# Altium schematic symbol library VC099_V13_20211125_Library.SchLib: 284 symbols (part 6 of 28)
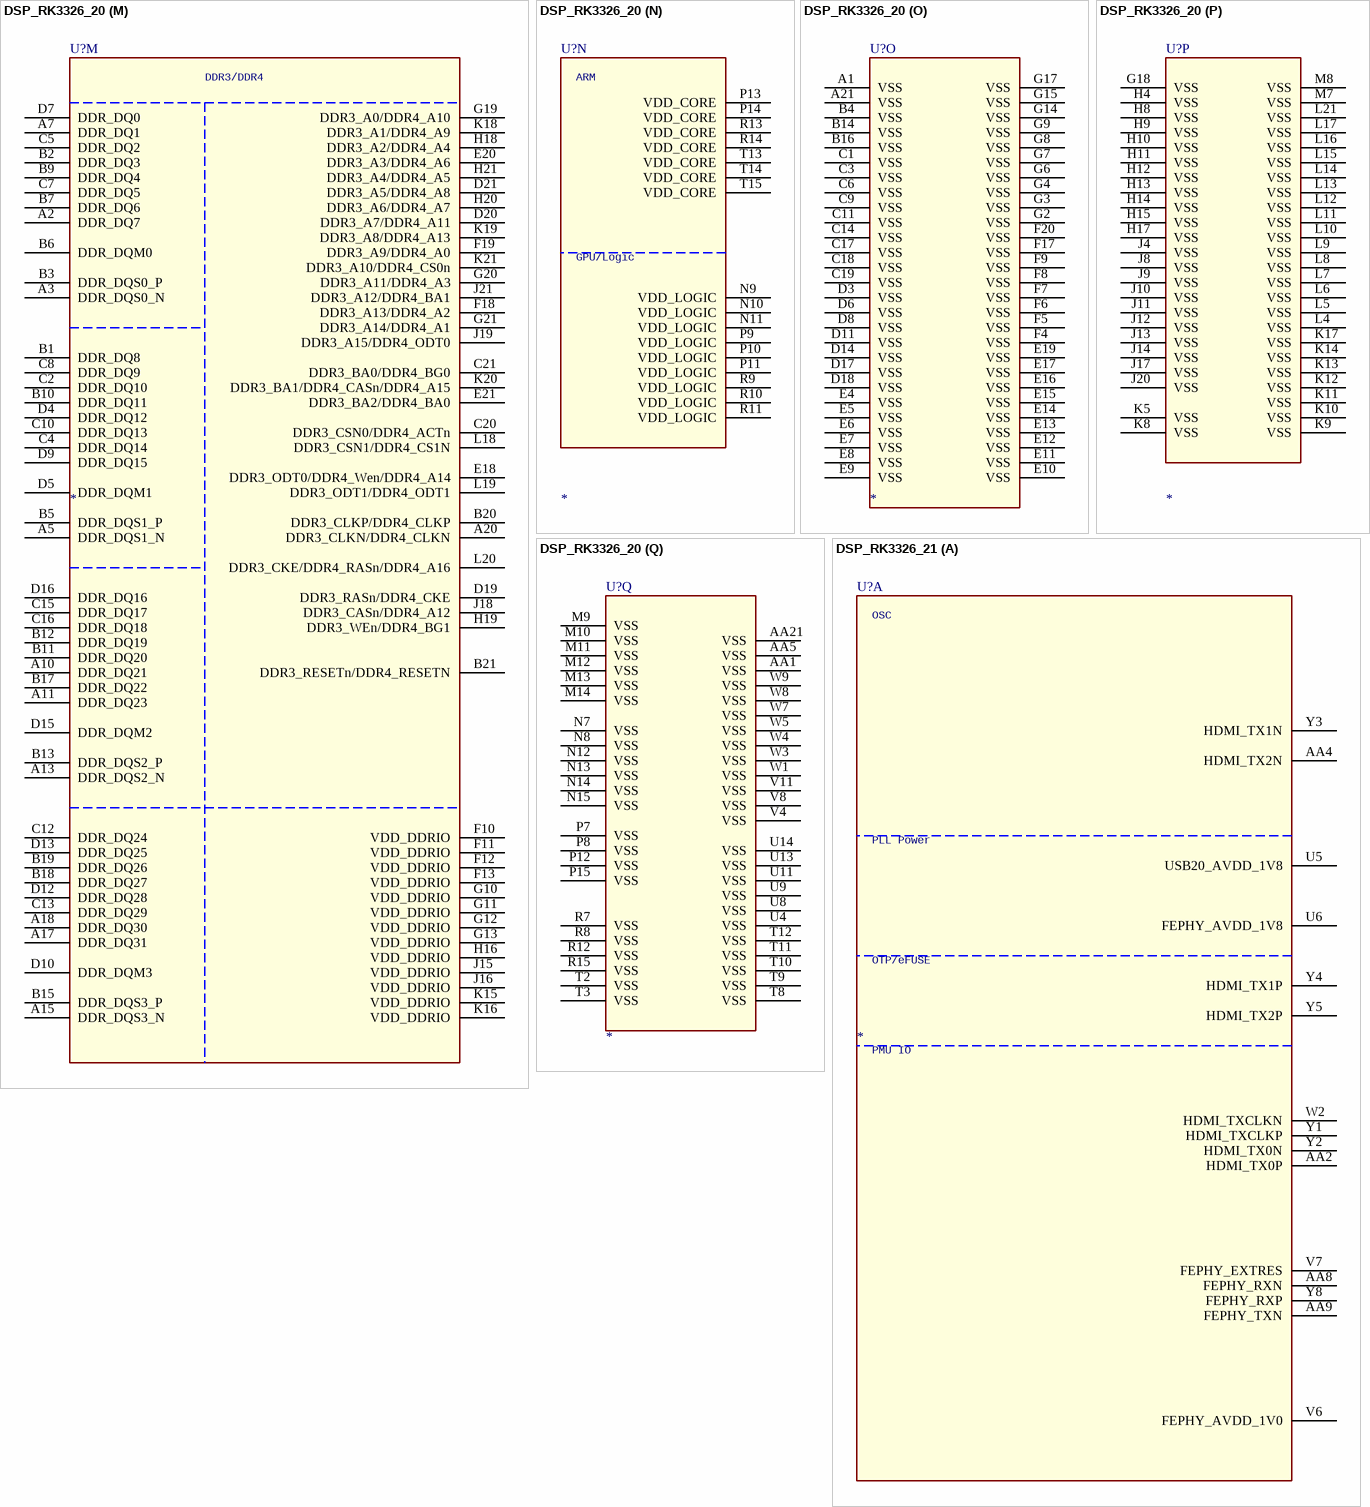
[diagram p368: symbols DSP_RK3326_20 to DSP_RK3326_21]

## DSP_RK3326_20
designator U?
footprint RK3228H_21X21
part A pins: AA2 HDMI_TX0P, AA4 HDMI_TX2N, AA8 FEPHY_RXN, AA9 FEPHY_TXN, U5 USB20_AVDD_1V8, U6 FEPHY_AVDD_1V8, V6 FEPHY_AVDD_1V0, V7 FEPHY_EXTRES, W2 HDMI_TXCLKN, Y1 HDMI_TXCLKP, Y2 HDMI_TX0N, Y3 HDMI_TX1N, Y4 HDMI_TX1P, Y5 HDMI_TX2P, Y8 FEPHY_RXP
part B pins: K6 VCCIO_PMU, R1 XIN24M, R3 GPIO0_A2/CLKOUT_GMAC_M0/SPDIF_TX_M2_d, T1 XOUT24M, U3 GPIO0_A4/HDMI_HPD_d, V1 I2C3_SCL/HDMI_SCL_od, V2 HDMI_CEC_od, V3 I2C3_SDA/HDMI_SDA_od
part C pins: M4 HDMI_EXTR, M5 VDD_PMU, M6 HDMI_AVDD_1V0, N5 CODEC_AVDD_1V8, N6 VDAC_AVDD_1V8, P6 HDMI_AVDD_1V8, R4 CODEC_AVSS, R5 VSS (power), T4 CODEC_VCM
part D pins: AA13 GPIO1_A3/SDMMC0_D3/JTAG_TMS_u, U7 VCCIO3, U10 GPIO1_A0/SDMMC0_D0/UART2_TX_M0_u, W11 GPIO1_A1/SDMMC0_D1/UART2_RX_M0_u, W12 GPIO1_A6/SDMMC0_CLK/TEST_CLK0_d, W13 GPIO1_A2/SDMMC0_D2/JTAG_TCK_u, Y13 GPIO1_A4/SDMMC0_CMD_u
part E pins: AA15 GPIO1_B1/UART0_TX/GMAC_TXD0_M1_u, AA17 GPIO1_D0/I2S2_SDI_M0/GMAC_RXER_M1/PDM_SDI1_M1_d, AA19 GPIO1_C0/SDMMC1_D2/GMAC_TXD3_M1_u, AA20 GPIO1_B4/SDMMC1_CLK/GMAC_TXCLK_M1_d, U12 VCCIO4, W15 GPIO1_C5/I2S2_MCLK/GMAC_CLK_M1_d, W16 GPIO1_C6/I2S2_SCLK_M0/GMAC_RXDV_M1/PDM_CLK_M1_u, W17 GPIO1_C7/I2S2_LRCK_TX_M0/GMAC_MDC_M1/PDM_SDI0_M1_d, W18 GPIO1_B7/SDMMC1_D1/GMAC_RXD2_M1_u, W19 GPIO1_B6/SDMMC1_D0/GMAC_RXD3_M1_u, W20 GPIO1_C2/SDMMC1_PWREN/GMAC_CRS_M1_d, W21 GPIO3_C0/EMMC_D5_u, Y15 GPIO1_B0/UART0_RX/GMAC_TXD1_M1_u, Y17 GPIO1_D1/I2S2_SDO_M0/GMAC_TXEN_M1/PDM_SDI2_M1_d, Y19 GPIO1_C1/SDMMC1_D3/GMAC_TXD2_M1_u, Y20 GPIO1_B5/SDMMC1_CMD/GMAC_RXCLK_M1_u, Y21 GPIO1_C3/SDMMC1_DET/GMAC_MDIO_M1/PDM_FSYNC_M1_u
part F pins: P16 EFUSE_VP, P17 GPIO2_D0/I2C0_SCL/FEPHY_LED_LINK_M1_u, P18 GPIO2_C1/I2S1_LRCK_TX/SPDIF_TX_M1/TSP_D6_M1/CIF_D6_M1_u, P19 GPIO2_A0/UART2_TX_M1/POWERSTATE0_d, P20 GPIO2_A1/UART2_RX_M1/POWERSTATE1_u, P21 NPOR_u, R16 VCCIO5, R17 GPIO2_D1/I2C0_SDA/FEPHY_LED_DATA_M1_u, R18 GPIO2_C2/I2S1_SCLK/PDM_CLK_M0/TSP_D7_M1/CIF_D7_M1_d, R19 GPIO3_C6/EMMC_PWREN_d, R20 GPIO3_C3/EMMC_CMD_u, R21 GPIO3_C5/EMMC_CLKOUT_u, T16 GPIO2_B4/SPI_CSN1_M0/FLASH_VOL_SEL_u, T17 VCCIO2, T18 GPIO3_C1/EMMC_D6_u, T19 GPIO3_C2/EMMC_D7_u, U15 VSS (power), U16 GPIO2_C3/I2S1_SDI/PDM_SDI0_M0/CARD_CLK_M1_u, U17 GPIO2_A3/EFUSE_PWREN/POWERSTATE3_u, U18 GPIO2_D7/EMMC_D4_u, U19 GPIO0_A7/EMMC_D0_u, U20 GPIO2_D4/EMMC_D1_u, U21 GPIO2_D5/EMMC_D2_u, V12 GPIO1_D2/I2S2_LRCK_RX_M0/CLKOUT_GMAC_M2/PDM_SDI3_M1_d, V13 GPIO1_B3/UART0_CTSN/GMAC_RXD0_M1_d, V14 GPIO1_D4/CLK32KOUT_M1_d, V15 GPIO2_C0/I2S1_LRCK_RX/TSP_D5_M1/CIF_D5_M1_u, V16 GPIO2_C6/I2S1_SDIO3/PDM_SDI3_M0/CARD_IO_M1_u, V17 GPIO2_C5/I2S1_SDIO2/PDM_SDI2_M0/CARD_DET_M1_u, V18 GPIO2_C4/I2S1_SDIO1/PDM_SDI1_M0/CARD_RST_M1_u, V19 GPIO2_D6/EMMC_D3_u, W14 GPIO1_B2/UART0_RTSN/GMAC_RXD1_M1_d
part G pins: D1 GPIO3_A5/TSP_D1/CIF_D1/SDMMC0EXT_D1/UART1_RTSN/USB3PHY_DEBUG5_u, D2 GPIO3_A1/TSP_FAIL/CIF_HREF/SDMMC0EXT_DET/SPI_TXD_M2/USB3PHY_DEBUG2/I2S2_SDO_M1_u, E1 GPIO3_A2/TSP_CLK/CIF_CLKIN/SDMMC0EXT_CLK/SPI_RXD_M2/USB3PHY_DEBUG3/I2S2_SDI_M1_d, E2 GPIO3_A4/TSP_D0/CIF_D0/SDMMC0EXT_D0/UART1_TX/USB3PHY_DEBUG4_u, E3 GPIO3_A0/TSP_VALID/CIF_VSYNC/SDMMC0EXT_CMD/SPI_CLK_M2/USB3PHY_DEBUG1/I2S2_SCLK_M1_u, F1 GPIO3_A7/TSP_D3/CIF_D3/SDMMC0EXT_D3/UART1_CTSN/USB3PHY_DEBUG7_u, F2 GPIO3_A6/TSP_D2/CIF_D2/SDMMC0EXT_D2/UART1_RX/USB3PHY_DEBUG6_u, F3 GPIO3_B0/TSP_D4/CIF_D4/SPI_CSN0_M2/I2S2_LRCK_TX_M1/USB3PHY_DEBUG8/I2S2_LRCK_RX_M1_d, H2 USB30_TXN, H3 USB30_TXP, H6 VCCIO6, J2 USB30_RXP, J3 USB30_RXN
part H pins: M15 TEST_d, M16 SARADC_AVDD_1V8, M17 SARADC_IN1, M18 SARADC_IN0, M19 GPIO2_A6/PWM2_u, M20 GPIO2_D2/USB20_DRV_d, M21 GPIO2_A2/IR_RX/POWERSTATE2_u, N16 OTP_VCC18, N17 GPIO2_C7/I2S1_SDO/PDM_FSYNC_M0_u, N18 GPIO2_B7/I2S1_MCLK/TSP_SYNC_M1/CIF_CLKOUT_M1_d, N19 GPIO2_A4/PWM0/I2C1_SDA_u, N20 GPIO2_A5/PWM1/I2C1_SCL_u
part I pins: V9 GPIO0_D3/SPDIF_TX_M0_d, V10 GPIO1_A5/SDMMC0_DETN_u, W10 GPIO0_D6/FEPHY_LED_SPEED10/SDMMC0_PWREN_M1_d, Y9 FEPHY_TXP
part J pins: N1 CODEC_AOR, N2 GPIO_MUTE_d, N3 VSS (power), P2 CODEC_AOL, P3 VSS (power), P4 VDAC_IREF, R2 VSS (power)
part K pins: AA6 USB0_DP, AA7 USB1_DP, T5 USB20_AVDD_3V3, T6 USB20_VBUS, T7 VCCIO1, V5 USB20_DVDD_1V0, W6 USB20_EXTR, Y6 USB0_DM, Y7 USB1_DM
part L pins: G5 USB30_EXTR, H5 PLL_AVDD_1V8, H7 PLL_DVDD_1V0, J5 USB30_AVDD_1V8, J6 USB30_AVDD_3V3, J7 USB30_DVDD_1V0, K1 USB30_DP, K2 USB30_DM, K3 VSS (power), K7 USB30_VBUS, L3 GPIO0_A0/CLKOUT_WIFI_M0_d, M2 VDAC_IOUT
part M pins: A2 DDR_DQ7, A3 DDR_DQS0_N, A5 DDR_DQS1_N, A7 DDR_DQ1, A10 DDR_DQ21, A11 DDR_DQ23, A13 DDR_DQS2_N, A15 DDR_DQS3_N, A17 DDR_DQ31, A18 DDR_DQ30, A20 DDR3_CLKN/DDR4_CLKN, B1 DDR_DQ8, B2 DDR_DQ3, B3 DDR_DQS0_P, B5 DDR_DQS1_P, B6 DDR_DQM0, B7 DDR_DQ6, B9 DDR_DQ4, B10 DDR_DQ11, B11 DDR_DQ20, B12 DDR_DQ19, B13 DDR_DQS2_P, B15 DDR_DQS3_P, B17 DDR_DQ22, B18 DDR_DQ27, B19 DDR_DQ26, B20 DDR3_CLKP/DDR4_CLKP, B21 DDR3_RESETn/DDR4_RESETN, C2 DDR_DQ10, C4 DDR_DQ14, C5 DDR_DQ2, C7 DDR_DQ5, C8 DDR_DQ9, C10 DDR_DQ13, C12 DDR_DQ24, C13 DDR_DQ29, C15 DDR_DQ17, C16 DDR_DQ18, C20 DDR3_CSN0/DDR4_ACTn, C21 DDR3_BA0/DDR4_BG0, D4 DDR_DQ12, D5 DDR_DQM1, D7 DDR_DQ0, D9 DDR_DQ15, D10 DDR_DQM3, D12 DDR_DQ28, D13 DDR_DQ25, D15 DDR_DQM2, D16 DDR_DQ16, D19 DDR3_RASn/DDR4_CKE, D20 DDR3_A7/DDR4_A11, D21 DDR3_A5/DDR4_A8, E18 DDR3_ODT0/DDR4_Wen/DDR4_A14, E20 DDR3_A3/DDR4_A6, E21 DDR3_BA2/DDR4_BA0, F10 VDD_DDRIO (power), F11 VDD_DDRIO (power), F12 VDD_DDRIO (power), F13 VDD_DDRIO (power), F18 DDR3_A13/DDR4_A2, F19 DDR3_A9/DDR4_A0, G10 VDD_DDRIO (power), G11 VDD_DDRIO (power), G12 VDD_DDRIO (power), G13 VDD_DDRIO (power), G19 DDR3_A0/DDR4_A10, G20 DDR3_A11/DDR4_A3, G21 DDR3_A14/DDR4_A1, H16 VDD_DDRIO (power), H18 DDR3_A2/DDR4_A4, H19 DDR3_WEn/DDR4_BG1, H20 DDR3_A6/DDR4_A7, H21 DDR3_A4/DDR4_A5, J15 VDD_DDRIO (power), J16 VDD_DDRIO (power), J18 DDR3_CASn/DDR4_A12, J19 DDR3_A15/DDR4_ODT0, J21 DDR3_A12/DDR4_BA1, K15 VDD_DDRIO (power), K16 VDD_DDRIO (power), K18 DDR3_A1/DDR4_A9, K19 DDR3_A8/DDR4_A13, K20 DDR3_BA1/DDR4_CASn/DDR4_A15, K21 DDR3_A10/DDR4_CS0n, L18 DDR3_CSN1/DDR4_CS1N, L19 DDR3_ODT1/DDR4_ODT1, L20 DDR3_CKE/DDR4_RASn/DDR4_A16
part N pins: N9 VDD_LOGIC (power), N10 VDD_LOGIC (power), N11 VDD_LOGIC (power), P9 VDD_LOGIC (power), P10 VDD_LOGIC (power), P11 VDD_LOGIC (power), P13 VDD_CORE (power), P14 VDD_CORE (power), R9 VDD_LOGIC (power), R10 VDD_LOGIC (power), R11 VDD_LOGIC (power), R13 VDD_CORE (power), R14 VDD_CORE (power), T13 VDD_CORE (power), T14 VDD_CORE (power), T15 VDD_CORE (power)
part O pins: A1 VSS (power), A21 VSS (power), B4 VSS (power), B14 VSS (power), B16 VSS (power), C1 VSS (power), C3 VSS (power), C6 VSS (power), C9 VSS (power), C11 VSS (power), C14 VSS (power), C17 VSS (power), C18 VSS (power), C19 VSS (power), D3 VSS (power), D6 VSS (power), D8 VSS (power), D11 VSS (power), D14 VSS (power), D17 VSS (power), D18 VSS (power), E4 VSS (power), E5 VSS (power), E6 VSS (power), E7 VSS (power), E8 VSS (power), E9 VSS (power), E10 VSS (power), E11 VSS (power), E12 VSS (power), E13 VSS (power), E14 VSS (power), E15 VSS (power), E16 VSS (power), E17 VSS (power), E19 VSS (power), F4 VSS (power), F5 VSS (power), F6 VSS (power), F7 VSS (power), F8 VSS (power), F9 VSS (power), F17 VSS (power), F20 VSS (power), G2 VSS (power), G3 VSS (power), G4 VSS (power), G6 VSS (power), G7 VSS (power), G8 VSS (power), G9 VSS (power), G14 VSS (power), G15 VSS (power), G17 VSS (power)
part P pins: G18 VSS (power), H4 VSS (power), H8 VSS (power), H9 VSS (power), H10 VSS (power), H11 VSS (power), H12 VSS (power), H13 VSS (power), H14 VSS (power), H15 VSS (power), H17 VSS (power), J4 VSS (power), J8 VSS (power), J9 VSS (power), J10 VSS (power), J11 VSS (power), J12 VSS (power), J13 VSS (power), J14 VSS (power), J17 VSS (power), J20 VSS (power), K5 VSS (power), K8 VSS (power), K9 VSS (power), K10 VSS (power), K11 VSS (power), K12 VSS (power), K13 VSS (power), K14 VSS (power), K17 VSS (power), L4 VSS (power), L5 VSS (power), L6 VSS (power), L7 VSS (power), L8 VSS (power), L9 VSS (power), L10 VSS (power), L11 VSS (power), L12 VSS (power), L13 VSS (power), L14 VSS (power), L15 VSS (power), L16 VSS (power), L17 VSS (power), L21 VSS (power), M7 VSS (power), M8 VSS (power)
part Q pins: AA1 VSS (power), AA5 VSS (power), AA21 VSS (power), M9 VSS (power), M10 VSS (power), M11 VSS (power), M12 VSS (power), M13 VSS (power), M14 VSS (power), N7 VSS (power), N8 VSS (power), N12 VSS (power), N13 VSS (power), N14 VSS (power), N15 VSS (power), P7 VSS (power), P8 VSS (power), P12 VSS (power), P15 VSS (power), R7 VSS (power), R8 VSS (power), R12 VSS (power), R15 VSS (power), T2 VSS (power), T3 VSS (power), T8 VSS (power), T9 VSS (power), T10 VSS (power), T11 VSS (power), T12 VSS (power), U4 VSS (power), U8 VSS (power), U9 VSS (power), U11 VSS (power), U13 VSS (power), U14 VSS (power), V4 VSS (power), V8 VSS (power), V11 VSS (power), W1 VSS (power), W3 VSS (power), W4 VSS (power), W5 VSS (power), W7 VSS (power), W8 VSS (power), W9 VSS (power)
part A text: OSC; PLL Power; OTP/eFUSE; PMU IO
part H text: MIPI OUT
part I text: TSADC
part J text: I2S
part K text: PMU IO
part L text: usb
part M text: DDR3/DDR4
part N text: ARM; GPU/Logic

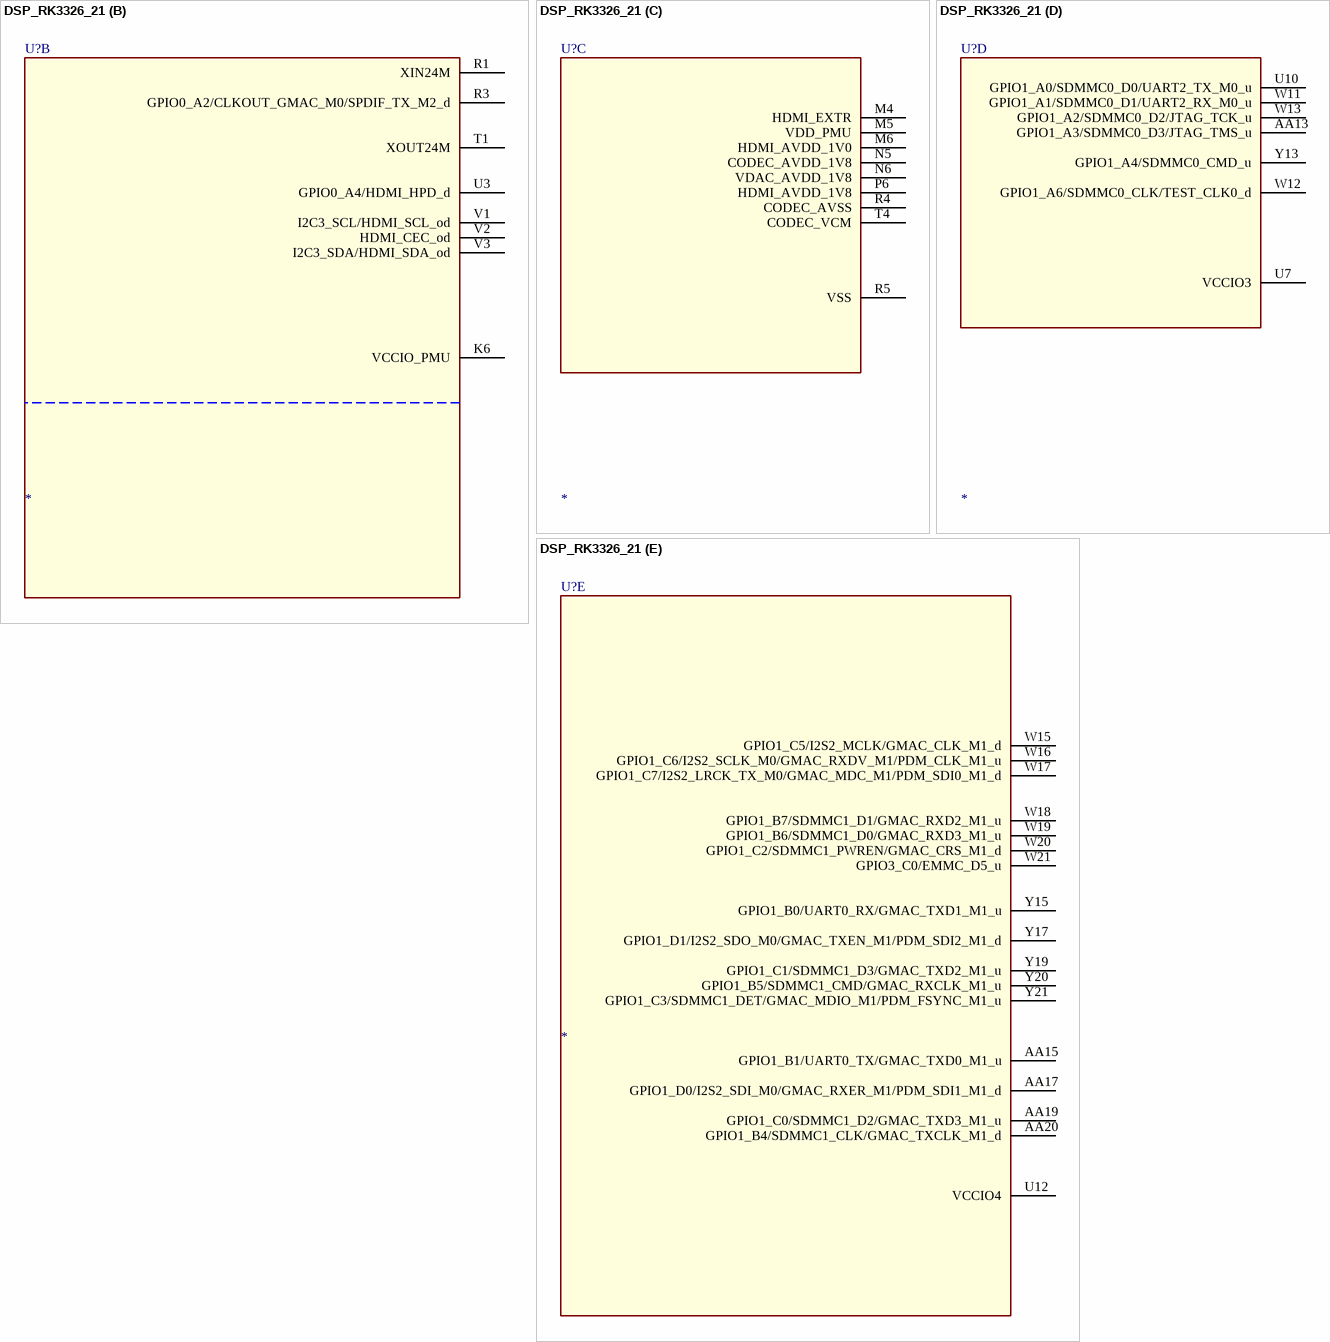
[diagram p80: symbol DSP_RK3326_21]

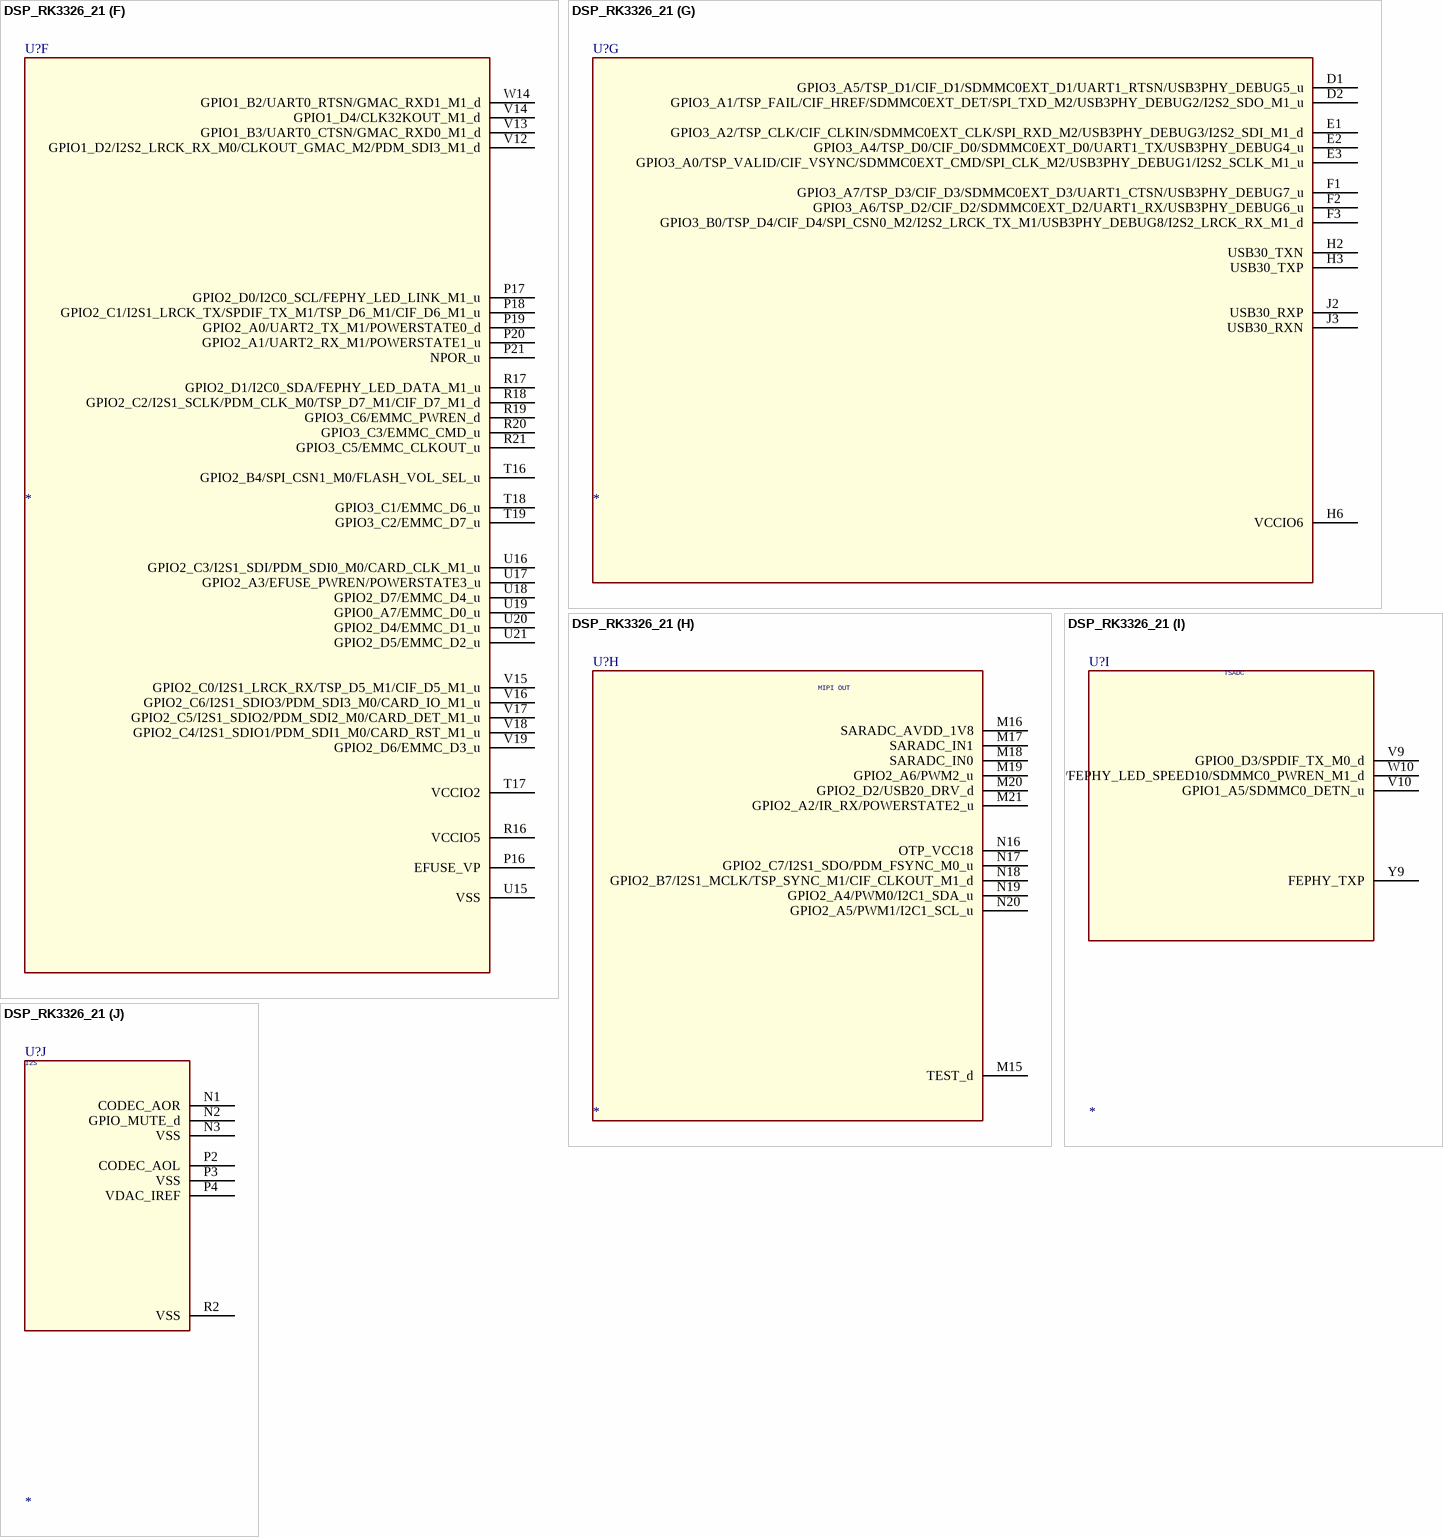
[diagram p81: symbol DSP_RK3326_21]

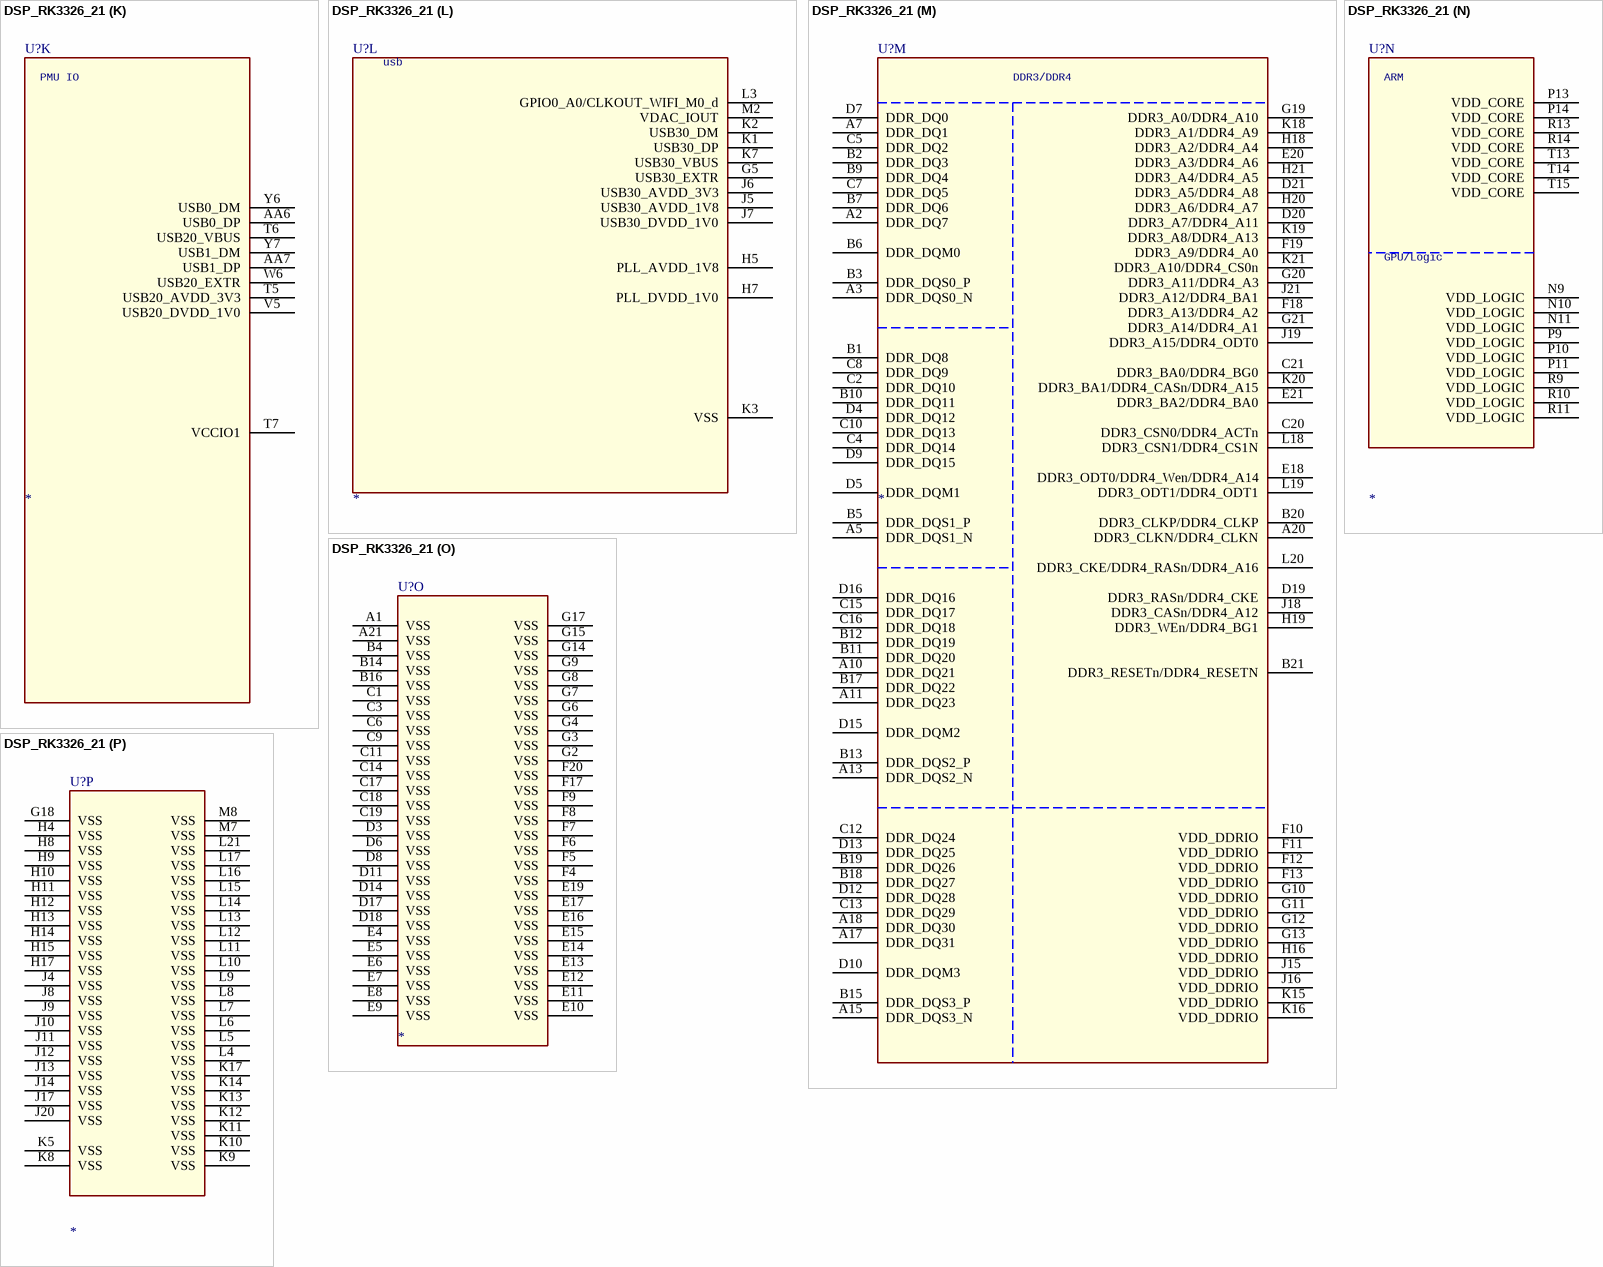
[diagram p82: symbol DSP_RK3326_21]

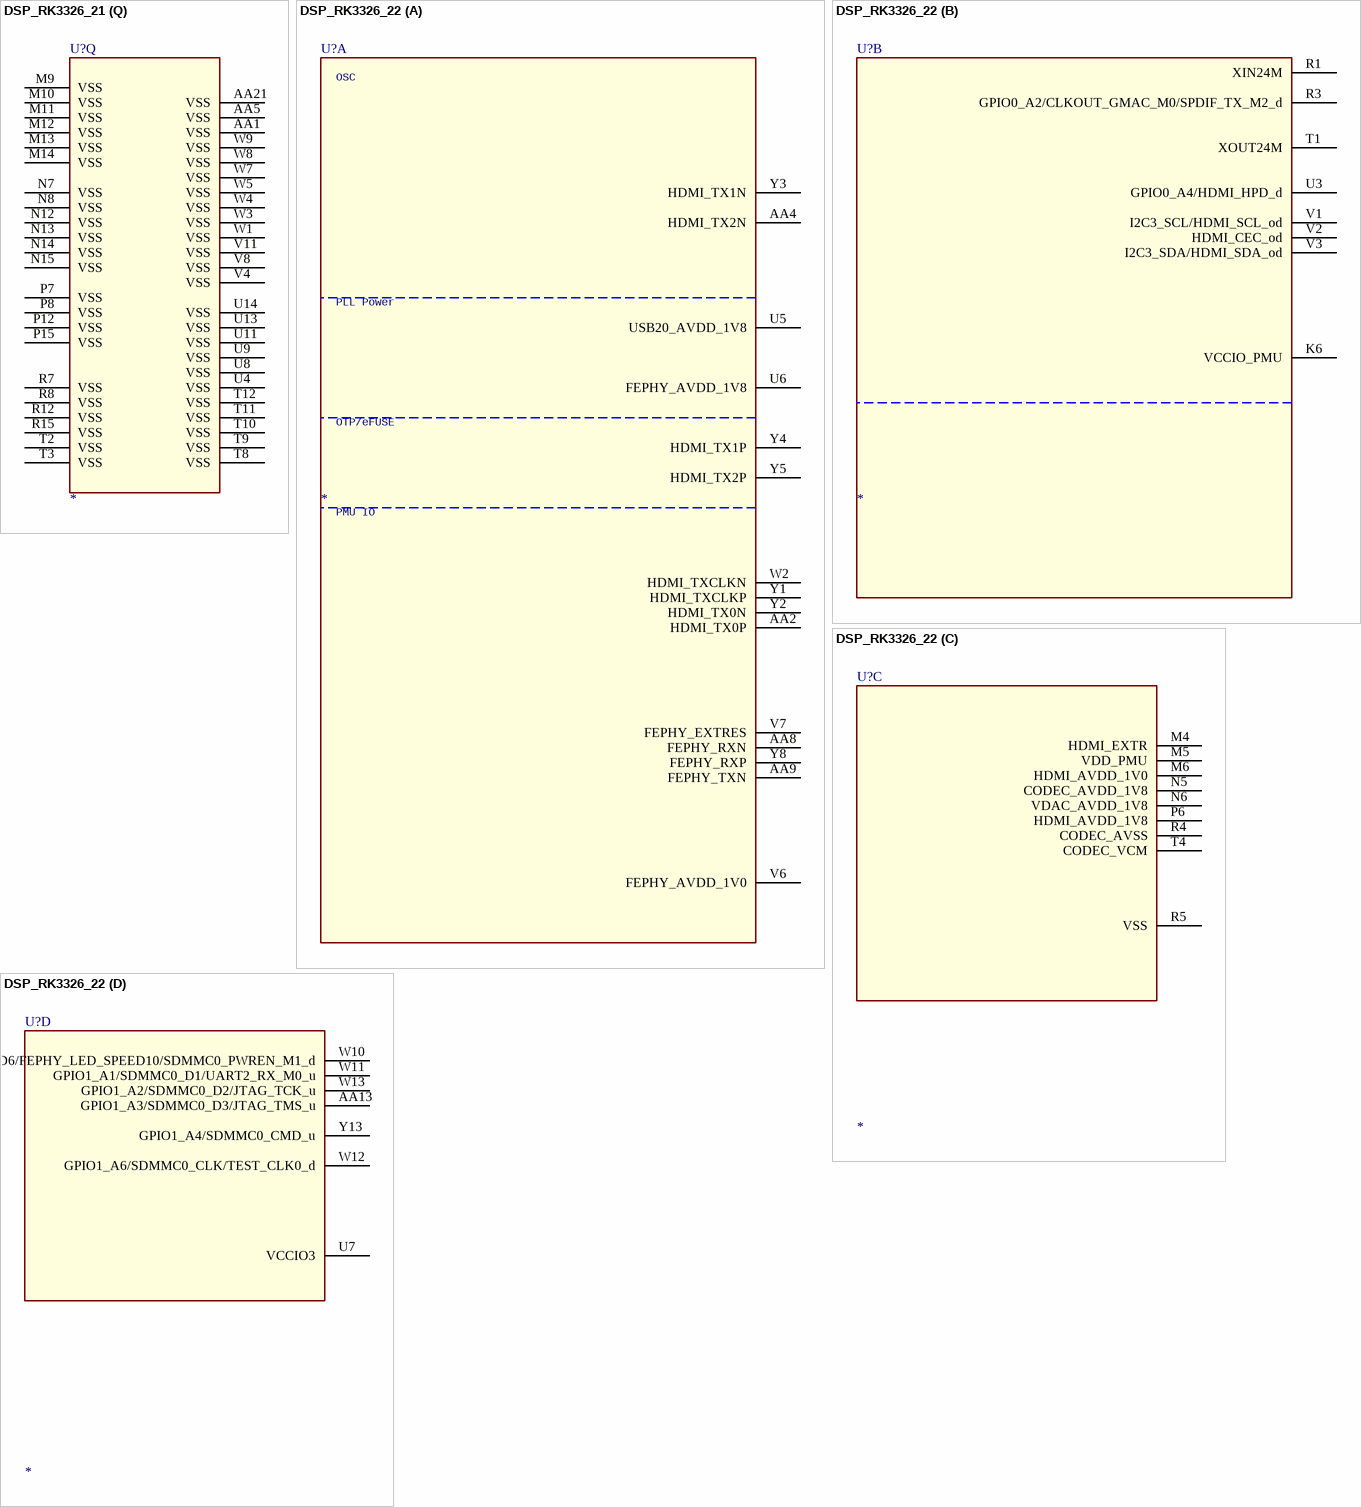
[diagram p83: symbols DSP_RK3326_21 to DSP_RK3326_22]

## DSP_RK3326_21
designator U?
footprint RK3228H_21X21
part A pins: AA2 HDMI_TX0P, AA4 HDMI_TX2N, AA8 FEPHY_RXN, AA9 FEPHY_TXN, U5 USB20_AVDD_1V8, U6 FEPHY_AVDD_1V8, V6 FEPHY_AVDD_1V0, V7 FEPHY_EXTRES, W2 HDMI_TXCLKN, Y1 HDMI_TXCLKP, Y2 HDMI_TX0N, Y3 HDMI_TX1N, Y4 HDMI_TX1P, Y5 HDMI_TX2P, Y8 FEPHY_RXP
part B pins: K6 VCCIO_PMU, R1 XIN24M, R3 GPIO0_A2/CLKOUT_GMAC_M0/SPDIF_TX_M2_d, T1 XOUT24M, U3 GPIO0_A4/HDMI_HPD_d, V1 I2C3_SCL/HDMI_SCL_od, V2 HDMI_CEC_od, V3 I2C3_SDA/HDMI_SDA_od
part C pins: M4 HDMI_EXTR, M5 VDD_PMU, M6 HDMI_AVDD_1V0, N5 CODEC_AVDD_1V8, N6 VDAC_AVDD_1V8, P6 HDMI_AVDD_1V8, R4 CODEC_AVSS, R5 VSS (power), T4 CODEC_VCM
part D pins: AA13 GPIO1_A3/SDMMC0_D3/JTAG_TMS_u, U7 VCCIO3, U10 GPIO1_A0/SDMMC0_D0/UART2_TX_M0_u, W11 GPIO1_A1/SDMMC0_D1/UART2_RX_M0_u, W12 GPIO1_A6/SDMMC0_CLK/TEST_CLK0_d, W13 GPIO1_A2/SDMMC0_D2/JTAG_TCK_u, Y13 GPIO1_A4/SDMMC0_CMD_u
part E pins: AA15 GPIO1_B1/UART0_TX/GMAC_TXD0_M1_u, AA17 GPIO1_D0/I2S2_SDI_M0/GMAC_RXER_M1/PDM_SDI1_M1_d, AA19 GPIO1_C0/SDMMC1_D2/GMAC_TXD3_M1_u, AA20 GPIO1_B4/SDMMC1_CLK/GMAC_TXCLK_M1_d, U12 VCCIO4, W15 GPIO1_C5/I2S2_MCLK/GMAC_CLK_M1_d, W16 GPIO1_C6/I2S2_SCLK_M0/GMAC_RXDV_M1/PDM_CLK_M1_u, W17 GPIO1_C7/I2S2_LRCK_TX_M0/GMAC_MDC_M1/PDM_SDI0_M1_d, W18 GPIO1_B7/SDMMC1_D1/GMAC_RXD2_M1_u, W19 GPIO1_B6/SDMMC1_D0/GMAC_RXD3_M1_u, W20 GPIO1_C2/SDMMC1_PWREN/GMAC_CRS_M1_d, W21 GPIO3_C0/EMMC_D5_u, Y15 GPIO1_B0/UART0_RX/GMAC_TXD1_M1_u, Y17 GPIO1_D1/I2S2_SDO_M0/GMAC_TXEN_M1/PDM_SDI2_M1_d, Y19 GPIO1_C1/SDMMC1_D3/GMAC_TXD2_M1_u, Y20 GPIO1_B5/SDMMC1_CMD/GMAC_RXCLK_M1_u, Y21 GPIO1_C3/SDMMC1_DET/GMAC_MDIO_M1/PDM_FSYNC_M1_u
part F pins: P16 EFUSE_VP, P17 GPIO2_D0/I2C0_SCL/FEPHY_LED_LINK_M1_u, P18 GPIO2_C1/I2S1_LRCK_TX/SPDIF_TX_M1/TSP_D6_M1/CIF_D6_M1_u, P19 GPIO2_A0/UART2_TX_M1/POWERSTATE0_d, P20 GPIO2_A1/UART2_RX_M1/POWERSTATE1_u, P21 NPOR_u, R16 VCCIO5, R17 GPIO2_D1/I2C0_SDA/FEPHY_LED_DATA_M1_u, R18 GPIO2_C2/I2S1_SCLK/PDM_CLK_M0/TSP_D7_M1/CIF_D7_M1_d, R19 GPIO3_C6/EMMC_PWREN_d, R20 GPIO3_C3/EMMC_CMD_u, R21 GPIO3_C5/EMMC_CLKOUT_u, T16 GPIO2_B4/SPI_CSN1_M0/FLASH_VOL_SEL_u, T17 VCCIO2, T18 GPIO3_C1/EMMC_D6_u, T19 GPIO3_C2/EMMC_D7_u, U15 VSS (power), U16 GPIO2_C3/I2S1_SDI/PDM_SDI0_M0/CARD_CLK_M1_u, U17 GPIO2_A3/EFUSE_PWREN/POWERSTATE3_u, U18 GPIO2_D7/EMMC_D4_u, U19 GPIO0_A7/EMMC_D0_u, U20 GPIO2_D4/EMMC_D1_u, U21 GPIO2_D5/EMMC_D2_u, V12 GPIO1_D2/I2S2_LRCK_RX_M0/CLKOUT_GMAC_M2/PDM_SDI3_M1_d, V13 GPIO1_B3/UART0_CTSN/GMAC_RXD0_M1_d, V14 GPIO1_D4/CLK32KOUT_M1_d, V15 GPIO2_C0/I2S1_LRCK_RX/TSP_D5_M1/CIF_D5_M1_u, V16 GPIO2_C6/I2S1_SDIO3/PDM_SDI3_M0/CARD_IO_M1_u, V17 GPIO2_C5/I2S1_SDIO2/PDM_SDI2_M0/CARD_DET_M1_u, V18 GPIO2_C4/I2S1_SDIO1/PDM_SDI1_M0/CARD_RST_M1_u, V19 GPIO2_D6/EMMC_D3_u, W14 GPIO1_B2/UART0_RTSN/GMAC_RXD1_M1_d
part G pins: D1 GPIO3_A5/TSP_D1/CIF_D1/SDMMC0EXT_D1/UART1_RTSN/USB3PHY_DEBUG5_u, D2 GPIO3_A1/TSP_FAIL/CIF_HREF/SDMMC0EXT_DET/SPI_TXD_M2/USB3PHY_DEBUG2/I2S2_SDO_M1_u, E1 GPIO3_A2/TSP_CLK/CIF_CLKIN/SDMMC0EXT_CLK/SPI_RXD_M2/USB3PHY_DEBUG3/I2S2_SDI_M1_d, E2 GPIO3_A4/TSP_D0/CIF_D0/SDMMC0EXT_D0/UART1_TX/USB3PHY_DEBUG4_u, E3 GPIO3_A0/TSP_VALID/CIF_VSYNC/SDMMC0EXT_CMD/SPI_CLK_M2/USB3PHY_DEBUG1/I2S2_SCLK_M1_u, F1 GPIO3_A7/TSP_D3/CIF_D3/SDMMC0EXT_D3/UART1_CTSN/USB3PHY_DEBUG7_u, F2 GPIO3_A6/TSP_D2/CIF_D2/SDMMC0EXT_D2/UART1_RX/USB3PHY_DEBUG6_u, F3 GPIO3_B0/TSP_D4/CIF_D4/SPI_CSN0_M2/I2S2_LRCK_TX_M1/USB3PHY_DEBUG8/I2S2_LRCK_RX_M1_d, H2 USB30_TXN, H3 USB30_TXP, H6 VCCIO6, J2 USB30_RXP, J3 USB30_RXN
part H pins: M15 TEST_d, M16 SARADC_AVDD_1V8, M17 SARADC_IN1, M18 SARADC_IN0, M19 GPIO2_A6/PWM2_u, M20 GPIO2_D2/USB20_DRV_d, M21 GPIO2_A2/IR_RX/POWERSTATE2_u, N16 OTP_VCC18, N17 GPIO2_C7/I2S1_SDO/PDM_FSYNC_M0_u, N18 GPIO2_B7/I2S1_MCLK/TSP_SYNC_M1/CIF_CLKOUT_M1_d, N19 GPIO2_A4/PWM0/I2C1_SDA_u, N20 GPIO2_A5/PWM1/I2C1_SCL_u
part I pins: V9 GPIO0_D3/SPDIF_TX_M0_d, V10 GPIO1_A5/SDMMC0_DETN_u, W10 GPIO0_D6/FEPHY_LED_SPEED10/SDMMC0_PWREN_M1_d, Y9 FEPHY_TXP
part J pins: N1 CODEC_AOR, N2 GPIO_MUTE_d, N3 VSS (power), P2 CODEC_AOL, P3 VSS (power), P4 VDAC_IREF, R2 VSS (power)
part K pins: AA6 USB0_DP, AA7 USB1_DP, T5 USB20_AVDD_3V3, T6 USB20_VBUS, T7 VCCIO1, V5 USB20_DVDD_1V0, W6 USB20_EXTR, Y6 USB0_DM, Y7 USB1_DM
part L pins: G5 USB30_EXTR, H5 PLL_AVDD_1V8, H7 PLL_DVDD_1V0, J5 USB30_AVDD_1V8, J6 USB30_AVDD_3V3, J7 USB30_DVDD_1V0, K1 USB30_DP, K2 USB30_DM, K3 VSS (power), K7 USB30_VBUS, L3 GPIO0_A0/CLKOUT_WIFI_M0_d, M2 VDAC_IOUT
part M pins: A2 DDR_DQ7, A3 DDR_DQS0_N, A5 DDR_DQS1_N, A7 DDR_DQ1, A10 DDR_DQ21, A11 DDR_DQ23, A13 DDR_DQS2_N, A15 DDR_DQS3_N, A17 DDR_DQ31, A18 DDR_DQ30, A20 DDR3_CLKN/DDR4_CLKN, B1 DDR_DQ8, B2 DDR_DQ3, B3 DDR_DQS0_P, B5 DDR_DQS1_P, B6 DDR_DQM0, B7 DDR_DQ6, B9 DDR_DQ4, B10 DDR_DQ11, B11 DDR_DQ20, B12 DDR_DQ19, B13 DDR_DQS2_P, B15 DDR_DQS3_P, B17 DDR_DQ22, B18 DDR_DQ27, B19 DDR_DQ26, B20 DDR3_CLKP/DDR4_CLKP, B21 DDR3_RESETn/DDR4_RESETN, C2 DDR_DQ10, C4 DDR_DQ14, C5 DDR_DQ2, C7 DDR_DQ5, C8 DDR_DQ9, C10 DDR_DQ13, C12 DDR_DQ24, C13 DDR_DQ29, C15 DDR_DQ17, C16 DDR_DQ18, C20 DDR3_CSN0/DDR4_ACTn, C21 DDR3_BA0/DDR4_BG0, D4 DDR_DQ12, D5 DDR_DQM1, D7 DDR_DQ0, D9 DDR_DQ15, D10 DDR_DQM3, D12 DDR_DQ28, D13 DDR_DQ25, D15 DDR_DQM2, D16 DDR_DQ16, D19 DDR3_RASn/DDR4_CKE, D20 DDR3_A7/DDR4_A11, D21 DDR3_A5/DDR4_A8, E18 DDR3_ODT0/DDR4_Wen/DDR4_A14, E20 DDR3_A3/DDR4_A6, E21 DDR3_BA2/DDR4_BA0, F10 VDD_DDRIO (power), F11 VDD_DDRIO (power), F12 VDD_DDRIO (power), F13 VDD_DDRIO (power), F18 DDR3_A13/DDR4_A2, F19 DDR3_A9/DDR4_A0, G10 VDD_DDRIO (power), G11 VDD_DDRIO (power), G12 VDD_DDRIO (power), G13 VDD_DDRIO (power), G19 DDR3_A0/DDR4_A10, G20 DDR3_A11/DDR4_A3, G21 DDR3_A14/DDR4_A1, H16 VDD_DDRIO (power), H18 DDR3_A2/DDR4_A4, H19 DDR3_WEn/DDR4_BG1, H20 DDR3_A6/DDR4_A7, H21 DDR3_A4/DDR4_A5, J15 VDD_DDRIO (power), J16 VDD_DDRIO (power), J18 DDR3_CASn/DDR4_A12, J19 DDR3_A15/DDR4_ODT0, J21 DDR3_A12/DDR4_BA1, K15 VDD_DDRIO (power), K16 VDD_DDRIO (power), K18 DDR3_A1/DDR4_A9, K19 DDR3_A8/DDR4_A13, K20 DDR3_BA1/DDR4_CASn/DDR4_A15, K21 DDR3_A10/DDR4_CS0n, L18 DDR3_CSN1/DDR4_CS1N, L19 DDR3_ODT1/DDR4_ODT1, L20 DDR3_CKE/DDR4_RASn/DDR4_A16
part N pins: N9 VDD_LOGIC (power), N10 VDD_LOGIC (power), N11 VDD_LOGIC (power), P9 VDD_LOGIC (power), P10 VDD_LOGIC (power), P11 VDD_LOGIC (power), P13 VDD_CORE (power), P14 VDD_CORE (power), R9 VDD_LOGIC (power), R10 VDD_LOGIC (power), R11 VDD_LOGIC (power), R13 VDD_CORE (power), R14 VDD_CORE (power), T13 VDD_CORE (power), T14 VDD_CORE (power), T15 VDD_CORE (power)
part O pins: A1 VSS (power), A21 VSS (power), B4 VSS (power), B14 VSS (power), B16 VSS (power), C1 VSS (power), C3 VSS (power), C6 VSS (power), C9 VSS (power), C11 VSS (power), C14 VSS (power), C17 VSS (power), C18 VSS (power), C19 VSS (power), D3 VSS (power), D6 VSS (power), D8 VSS (power), D11 VSS (power), D14 VSS (power), D17 VSS (power), D18 VSS (power), E4 VSS (power), E5 VSS (power), E6 VSS (power), E7 VSS (power), E8 VSS (power), E9 VSS (power), E10 VSS (power), E11 VSS (power), E12 VSS (power), E13 VSS (power), E14 VSS (power), E15 VSS (power), E16 VSS (power), E17 VSS (power), E19 VSS (power), F4 VSS (power), F5 VSS (power), F6 VSS (power), F7 VSS (power), F8 VSS (power), F9 VSS (power), F17 VSS (power), F20 VSS (power), G2 VSS (power), G3 VSS (power), G4 VSS (power), G6 VSS (power), G7 VSS (power), G8 VSS (power), G9 VSS (power), G14 VSS (power), G15 VSS (power), G17 VSS (power)
part P pins: G18 VSS (power), H4 VSS (power), H8 VSS (power), H9 VSS (power), H10 VSS (power), H11 VSS (power), H12 VSS (power), H13 VSS (power), H14 VSS (power), H15 VSS (power), H17 VSS (power), J4 VSS (power), J8 VSS (power), J9 VSS (power), J10 VSS (power), J11 VSS (power), J12 VSS (power), J13 VSS (power), J14 VSS (power), J17 VSS (power), J20 VSS (power), K5 VSS (power), K8 VSS (power), K9 VSS (power), K10 VSS (power), K11 VSS (power), K12 VSS (power), K13 VSS (power), K14 VSS (power), K17 VSS (power), L4 VSS (power), L5 VSS (power), L6 VSS (power), L7 VSS (power), L8 VSS (power), L9 VSS (power), L10 VSS (power), L11 VSS (power), L12 VSS (power), L13 VSS (power), L14 VSS (power), L15 VSS (power), L16 VSS (power), L17 VSS (power), L21 VSS (power), M7 VSS (power), M8 VSS (power)
part Q pins: AA1 VSS (power), AA5 VSS (power), AA21 VSS (power), M9 VSS (power), M10 VSS (power), M11 VSS (power), M12 VSS (power), M13 VSS (power), M14 VSS (power), N7 VSS (power), N8 VSS (power), N12 VSS (power), N13 VSS (power), N14 VSS (power), N15 VSS (power), P7 VSS (power), P8 VSS (power), P12 VSS (power), P15 VSS (power), R7 VSS (power), R8 VSS (power), R12 VSS (power), R15 VSS (power), T2 VSS (power), T3 VSS (power), T8 VSS (power), T9 VSS (power), T10 VSS (power), T11 VSS (power), T12 VSS (power), U4 VSS (power), U8 VSS (power), U9 VSS (power), U11 VSS (power), U13 VSS (power), U14 VSS (power), V4 VSS (power), V8 VSS (power), V11 VSS (power), W1 VSS (power), W3 VSS (power), W4 VSS (power), W5 VSS (power), W7 VSS (power), W8 VSS (power), W9 VSS (power)
part A text: OSC; PLL Power; OTP/eFUSE; PMU IO
part H text: MIPI OUT
part I text: TSADC
part J text: I2S
part K text: PMU IO
part L text: usb
part M text: DDR3/DDR4
part N text: ARM; GPU/Logic

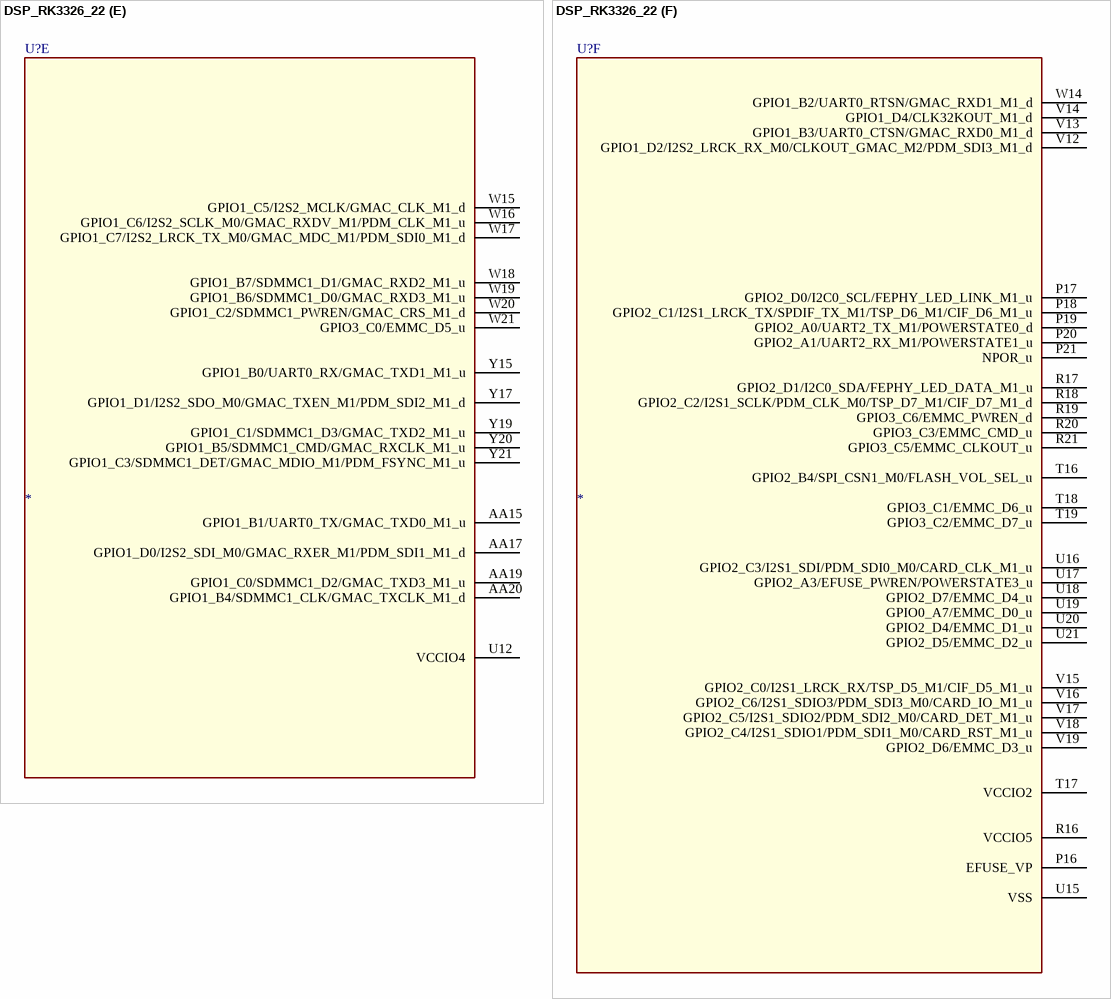
[diagram p84: symbol DSP_RK3326_22]

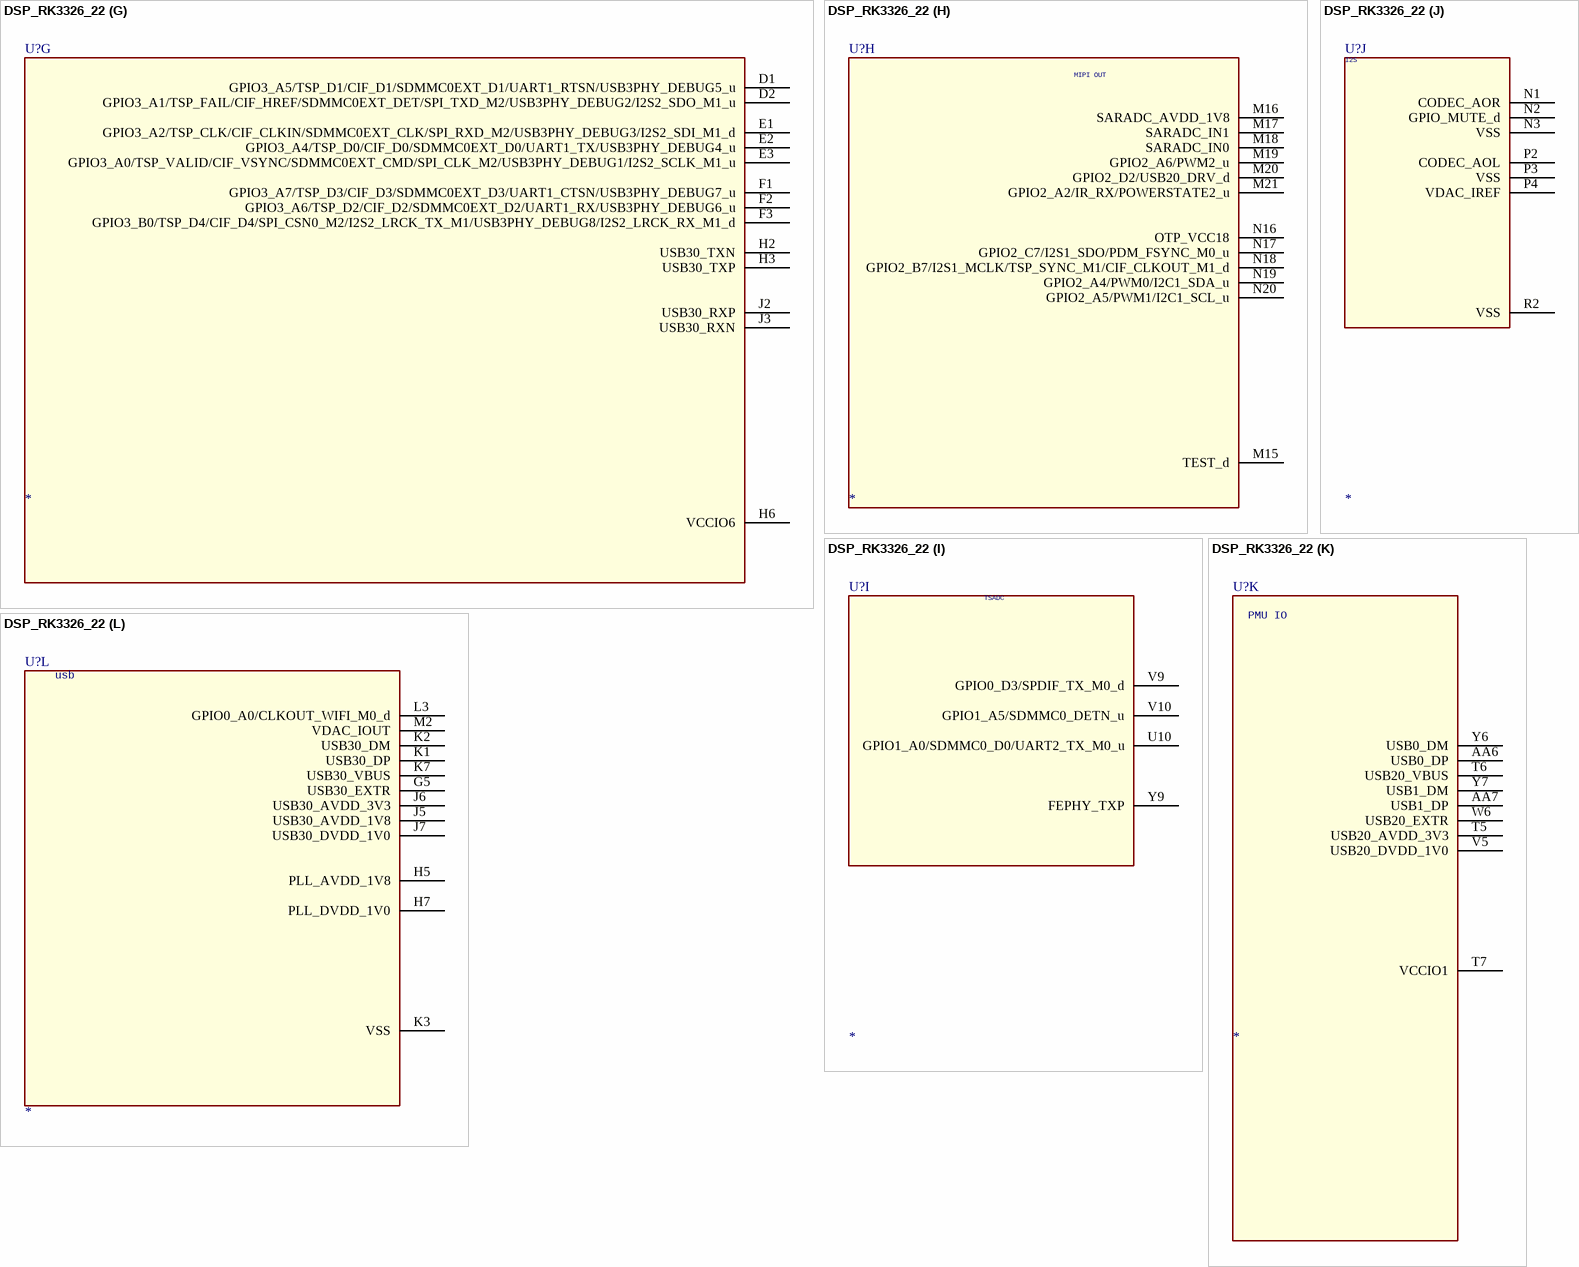
[diagram p85: symbol DSP_RK3326_22]

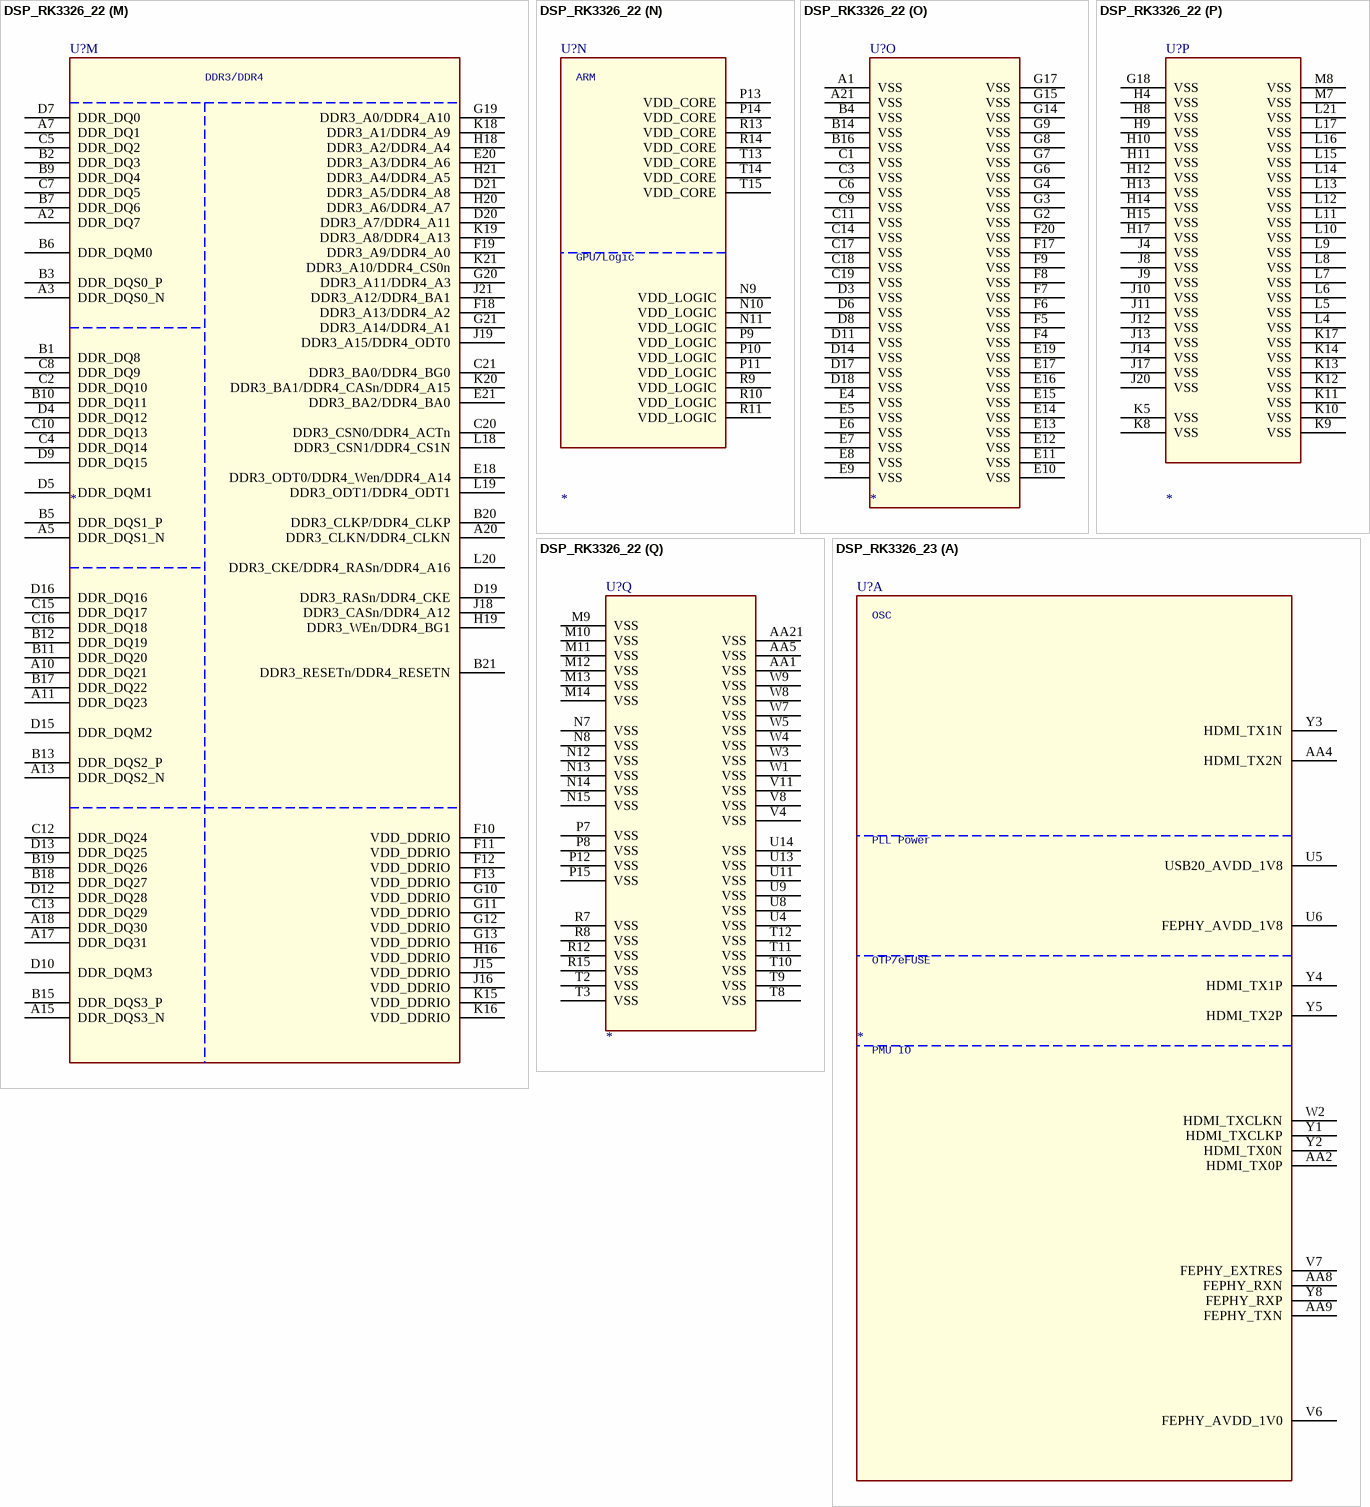
[diagram p86: symbols DSP_RK3326_22 to DSP_RK3326_23]

## DSP_RK3326_22
designator U?
footprint RK3228H_21X21
part A pins: AA2 HDMI_TX0P, AA4 HDMI_TX2N, AA8 FEPHY_RXN, AA9 FEPHY_TXN, U5 USB20_AVDD_1V8, U6 FEPHY_AVDD_1V8, V6 FEPHY_AVDD_1V0, V7 FEPHY_EXTRES, W2 HDMI_TXCLKN, Y1 HDMI_TXCLKP, Y2 HDMI_TX0N, Y3 HDMI_TX1N, Y4 HDMI_TX1P, Y5 HDMI_TX2P, Y8 FEPHY_RXP
part B pins: K6 VCCIO_PMU, R1 XIN24M, R3 GPIO0_A2/CLKOUT_GMAC_M0/SPDIF_TX_M2_d, T1 XOUT24M, U3 GPIO0_A4/HDMI_HPD_d, V1 I2C3_SCL/HDMI_SCL_od, V2 HDMI_CEC_od, V3 I2C3_SDA/HDMI_SDA_od
part C pins: M4 HDMI_EXTR, M5 VDD_PMU, M6 HDMI_AVDD_1V0, N5 CODEC_AVDD_1V8, N6 VDAC_AVDD_1V8, P6 HDMI_AVDD_1V8, R4 CODEC_AVSS, R5 VSS (power), T4 CODEC_VCM
part D pins: AA13 GPIO1_A3/SDMMC0_D3/JTAG_TMS_u, U7 VCCIO3, W10 GPIO0_D6/FEPHY_LED_SPEED10/SDMMC0_PWREN_M1_d, W11 GPIO1_A1/SDMMC0_D1/UART2_RX_M0_u, W12 GPIO1_A6/SDMMC0_CLK/TEST_CLK0_d, W13 GPIO1_A2/SDMMC0_D2/JTAG_TCK_u, Y13 GPIO1_A4/SDMMC0_CMD_u
part E pins: AA15 GPIO1_B1/UART0_TX/GMAC_TXD0_M1_u, AA17 GPIO1_D0/I2S2_SDI_M0/GMAC_RXER_M1/PDM_SDI1_M1_d, AA19 GPIO1_C0/SDMMC1_D2/GMAC_TXD3_M1_u, AA20 GPIO1_B4/SDMMC1_CLK/GMAC_TXCLK_M1_d, U12 VCCIO4, W15 GPIO1_C5/I2S2_MCLK/GMAC_CLK_M1_d, W16 GPIO1_C6/I2S2_SCLK_M0/GMAC_RXDV_M1/PDM_CLK_M1_u, W17 GPIO1_C7/I2S2_LRCK_TX_M0/GMAC_MDC_M1/PDM_SDI0_M1_d, W18 GPIO1_B7/SDMMC1_D1/GMAC_RXD2_M1_u, W19 GPIO1_B6/SDMMC1_D0/GMAC_RXD3_M1_u, W20 GPIO1_C2/SDMMC1_PWREN/GMAC_CRS_M1_d, W21 GPIO3_C0/EMMC_D5_u, Y15 GPIO1_B0/UART0_RX/GMAC_TXD1_M1_u, Y17 GPIO1_D1/I2S2_SDO_M0/GMAC_TXEN_M1/PDM_SDI2_M1_d, Y19 GPIO1_C1/SDMMC1_D3/GMAC_TXD2_M1_u, Y20 GPIO1_B5/SDMMC1_CMD/GMAC_RXCLK_M1_u, Y21 GPIO1_C3/SDMMC1_DET/GMAC_MDIO_M1/PDM_FSYNC_M1_u
part F pins: P16 EFUSE_VP, P17 GPIO2_D0/I2C0_SCL/FEPHY_LED_LINK_M1_u, P18 GPIO2_C1/I2S1_LRCK_TX/SPDIF_TX_M1/TSP_D6_M1/CIF_D6_M1_u, P19 GPIO2_A0/UART2_TX_M1/POWERSTATE0_d, P20 GPIO2_A1/UART2_RX_M1/POWERSTATE1_u, P21 NPOR_u, R16 VCCIO5, R17 GPIO2_D1/I2C0_SDA/FEPHY_LED_DATA_M1_u, R18 GPIO2_C2/I2S1_SCLK/PDM_CLK_M0/TSP_D7_M1/CIF_D7_M1_d, R19 GPIO3_C6/EMMC_PWREN_d, R20 GPIO3_C3/EMMC_CMD_u, R21 GPIO3_C5/EMMC_CLKOUT_u, T16 GPIO2_B4/SPI_CSN1_M0/FLASH_VOL_SEL_u, T17 VCCIO2, T18 GPIO3_C1/EMMC_D6_u, T19 GPIO3_C2/EMMC_D7_u, U15 VSS (power), U16 GPIO2_C3/I2S1_SDI/PDM_SDI0_M0/CARD_CLK_M1_u, U17 GPIO2_A3/EFUSE_PWREN/POWERSTATE3_u, U18 GPIO2_D7/EMMC_D4_u, U19 GPIO0_A7/EMMC_D0_u, U20 GPIO2_D4/EMMC_D1_u, U21 GPIO2_D5/EMMC_D2_u, V12 GPIO1_D2/I2S2_LRCK_RX_M0/CLKOUT_GMAC_M2/PDM_SDI3_M1_d, V13 GPIO1_B3/UART0_CTSN/GMAC_RXD0_M1_d, V14 GPIO1_D4/CLK32KOUT_M1_d, V15 GPIO2_C0/I2S1_LRCK_RX/TSP_D5_M1/CIF_D5_M1_u, V16 GPIO2_C6/I2S1_SDIO3/PDM_SDI3_M0/CARD_IO_M1_u, V17 GPIO2_C5/I2S1_SDIO2/PDM_SDI2_M0/CARD_DET_M1_u, V18 GPIO2_C4/I2S1_SDIO1/PDM_SDI1_M0/CARD_RST_M1_u, V19 GPIO2_D6/EMMC_D3_u, W14 GPIO1_B2/UART0_RTSN/GMAC_RXD1_M1_d
part G pins: D1 GPIO3_A5/TSP_D1/CIF_D1/SDMMC0EXT_D1/UART1_RTSN/USB3PHY_DEBUG5_u, D2 GPIO3_A1/TSP_FAIL/CIF_HREF/SDMMC0EXT_DET/SPI_TXD_M2/USB3PHY_DEBUG2/I2S2_SDO_M1_u, E1 GPIO3_A2/TSP_CLK/CIF_CLKIN/SDMMC0EXT_CLK/SPI_RXD_M2/USB3PHY_DEBUG3/I2S2_SDI_M1_d, E2 GPIO3_A4/TSP_D0/CIF_D0/SDMMC0EXT_D0/UART1_TX/USB3PHY_DEBUG4_u, E3 GPIO3_A0/TSP_VALID/CIF_VSYNC/SDMMC0EXT_CMD/SPI_CLK_M2/USB3PHY_DEBUG1/I2S2_SCLK_M1_u, F1 GPIO3_A7/TSP_D3/CIF_D3/SDMMC0EXT_D3/UART1_CTSN/USB3PHY_DEBUG7_u, F2 GPIO3_A6/TSP_D2/CIF_D2/SDMMC0EXT_D2/UART1_RX/USB3PHY_DEBUG6_u, F3 GPIO3_B0/TSP_D4/CIF_D4/SPI_CSN0_M2/I2S2_LRCK_TX_M1/USB3PHY_DEBUG8/I2S2_LRCK_RX_M1_d, H2 USB30_TXN, H3 USB30_TXP, H6 VCCIO6, J2 USB30_RXP, J3 USB30_RXN
part H pins: M15 TEST_d, M16 SARADC_AVDD_1V8, M17 SARADC_IN1, M18 SARADC_IN0, M19 GPIO2_A6/PWM2_u, M20 GPIO2_D2/USB20_DRV_d, M21 GPIO2_A2/IR_RX/POWERSTATE2_u, N16 OTP_VCC18, N17 GPIO2_C7/I2S1_SDO/PDM_FSYNC_M0_u, N18 GPIO2_B7/I2S1_MCLK/TSP_SYNC_M1/CIF_CLKOUT_M1_d, N19 GPIO2_A4/PWM0/I2C1_SDA_u, N20 GPIO2_A5/PWM1/I2C1_SCL_u
part I pins: U10 GPIO1_A0/SDMMC0_D0/UART2_TX_M0_u, V9 GPIO0_D3/SPDIF_TX_M0_d, V10 GPIO1_A5/SDMMC0_DETN_u, Y9 FEPHY_TXP
part J pins: N1 CODEC_AOR, N2 GPIO_MUTE_d, N3 VSS (power), P2 CODEC_AOL, P3 VSS (power), P4 VDAC_IREF, R2 VSS (power)
part K pins: AA6 USB0_DP, AA7 USB1_DP, T5 USB20_AVDD_3V3, T6 USB20_VBUS, T7 VCCIO1, V5 USB20_DVDD_1V0, W6 USB20_EXTR, Y6 USB0_DM, Y7 USB1_DM
part L pins: G5 USB30_EXTR, H5 PLL_AVDD_1V8, H7 PLL_DVDD_1V0, J5 USB30_AVDD_1V8, J6 USB30_AVDD_3V3, J7 USB30_DVDD_1V0, K1 USB30_DP, K2 USB30_DM, K3 VSS (power), K7 USB30_VBUS, L3 GPIO0_A0/CLKOUT_WIFI_M0_d, M2 VDAC_IOUT
part M pins: A2 DDR_DQ7, A3 DDR_DQS0_N, A5 DDR_DQS1_N, A7 DDR_DQ1, A10 DDR_DQ21, A11 DDR_DQ23, A13 DDR_DQS2_N, A15 DDR_DQS3_N, A17 DDR_DQ31, A18 DDR_DQ30, A20 DDR3_CLKN/DDR4_CLKN, B1 DDR_DQ8, B2 DDR_DQ3, B3 DDR_DQS0_P, B5 DDR_DQS1_P, B6 DDR_DQM0, B7 DDR_DQ6, B9 DDR_DQ4, B10 DDR_DQ11, B11 DDR_DQ20, B12 DDR_DQ19, B13 DDR_DQS2_P, B15 DDR_DQS3_P, B17 DDR_DQ22, B18 DDR_DQ27, B19 DDR_DQ26, B20 DDR3_CLKP/DDR4_CLKP, B21 DDR3_RESETn/DDR4_RESETN, C2 DDR_DQ10, C4 DDR_DQ14, C5 DDR_DQ2, C7 DDR_DQ5, C8 DDR_DQ9, C10 DDR_DQ13, C12 DDR_DQ24, C13 DDR_DQ29, C15 DDR_DQ17, C16 DDR_DQ18, C20 DDR3_CSN0/DDR4_ACTn, C21 DDR3_BA0/DDR4_BG0, D4 DDR_DQ12, D5 DDR_DQM1, D7 DDR_DQ0, D9 DDR_DQ15, D10 DDR_DQM3, D12 DDR_DQ28, D13 DDR_DQ25, D15 DDR_DQM2, D16 DDR_DQ16, D19 DDR3_RASn/DDR4_CKE, D20 DDR3_A7/DDR4_A11, D21 DDR3_A5/DDR4_A8, E18 DDR3_ODT0/DDR4_Wen/DDR4_A14, E20 DDR3_A3/DDR4_A6, E21 DDR3_BA2/DDR4_BA0, F10 VDD_DDRIO (power), F11 VDD_DDRIO (power), F12 VDD_DDRIO (power), F13 VDD_DDRIO (power), F18 DDR3_A13/DDR4_A2, F19 DDR3_A9/DDR4_A0, G10 VDD_DDRIO (power), G11 VDD_DDRIO (power), G12 VDD_DDRIO (power), G13 VDD_DDRIO (power), G19 DDR3_A0/DDR4_A10, G20 DDR3_A11/DDR4_A3, G21 DDR3_A14/DDR4_A1, H16 VDD_DDRIO (power), H18 DDR3_A2/DDR4_A4, H19 DDR3_WEn/DDR4_BG1, H20 DDR3_A6/DDR4_A7, H21 DDR3_A4/DDR4_A5, J15 VDD_DDRIO (power), J16 VDD_DDRIO (power), J18 DDR3_CASn/DDR4_A12, J19 DDR3_A15/DDR4_ODT0, J21 DDR3_A12/DDR4_BA1, K15 VDD_DDRIO (power), K16 VDD_DDRIO (power), K18 DDR3_A1/DDR4_A9, K19 DDR3_A8/DDR4_A13, K20 DDR3_BA1/DDR4_CASn/DDR4_A15, K21 DDR3_A10/DDR4_CS0n, L18 DDR3_CSN1/DDR4_CS1N, L19 DDR3_ODT1/DDR4_ODT1, L20 DDR3_CKE/DDR4_RASn/DDR4_A16
part N pins: N9 VDD_LOGIC (power), N10 VDD_LOGIC (power), N11 VDD_LOGIC (power), P9 VDD_LOGIC (power), P10 VDD_LOGIC (power), P11 VDD_LOGIC (power), P13 VDD_CORE (power), P14 VDD_CORE (power), R9 VDD_LOGIC (power), R10 VDD_LOGIC (power), R11 VDD_LOGIC (power), R13 VDD_CORE (power), R14 VDD_CORE (power), T13 VDD_CORE (power), T14 VDD_CORE (power), T15 VDD_CORE (power)
part O pins: A1 VSS (power), A21 VSS (power), B4 VSS (power), B14 VSS (power), B16 VSS (power), C1 VSS (power), C3 VSS (power), C6 VSS (power), C9 VSS (power), C11 VSS (power), C14 VSS (power), C17 VSS (power), C18 VSS (power), C19 VSS (power), D3 VSS (power), D6 VSS (power), D8 VSS (power), D11 VSS (power), D14 VSS (power), D17 VSS (power), D18 VSS (power), E4 VSS (power), E5 VSS (power), E6 VSS (power), E7 VSS (power), E8 VSS (power), E9 VSS (power), E10 VSS (power), E11 VSS (power), E12 VSS (power), E13 VSS (power), E14 VSS (power), E15 VSS (power), E16 VSS (power), E17 VSS (power), E19 VSS (power), F4 VSS (power), F5 VSS (power), F6 VSS (power), F7 VSS (power), F8 VSS (power), F9 VSS (power), F17 VSS (power), F20 VSS (power), G2 VSS (power), G3 VSS (power), G4 VSS (power), G6 VSS (power), G7 VSS (power), G8 VSS (power), G9 VSS (power), G14 VSS (power), G15 VSS (power), G17 VSS (power)
part P pins: G18 VSS (power), H4 VSS (power), H8 VSS (power), H9 VSS (power), H10 VSS (power), H11 VSS (power), H12 VSS (power), H13 VSS (power), H14 VSS (power), H15 VSS (power), H17 VSS (power), J4 VSS (power), J8 VSS (power), J9 VSS (power), J10 VSS (power), J11 VSS (power), J12 VSS (power), J13 VSS (power), J14 VSS (power), J17 VSS (power), J20 VSS (power), K5 VSS (power), K8 VSS (power), K9 VSS (power), K10 VSS (power), K11 VSS (power), K12 VSS (power), K13 VSS (power), K14 VSS (power), K17 VSS (power), L4 VSS (power), L5 VSS (power), L6 VSS (power), L7 VSS (power), L8 VSS (power), L9 VSS (power), L10 VSS (power), L11 VSS (power), L12 VSS (power), L13 VSS (power), L14 VSS (power), L15 VSS (power), L16 VSS (power), L17 VSS (power), L21 VSS (power), M7 VSS (power), M8 VSS (power)
part Q pins: AA1 VSS (power), AA5 VSS (power), AA21 VSS (power), M9 VSS (power), M10 VSS (power), M11 VSS (power), M12 VSS (power), M13 VSS (power), M14 VSS (power), N7 VSS (power), N8 VSS (power), N12 VSS (power), N13 VSS (power), N14 VSS (power), N15 VSS (power), P7 VSS (power), P8 VSS (power), P12 VSS (power), P15 VSS (power), R7 VSS (power), R8 VSS (power), R12 VSS (power), R15 VSS (power), T2 VSS (power), T3 VSS (power), T8 VSS (power), T9 VSS (power), T10 VSS (power), T11 VSS (power), T12 VSS (power), U4 VSS (power), U8 VSS (power), U9 VSS (power), U11 VSS (power), U13 VSS (power), U14 VSS (power), V4 VSS (power), V8 VSS (power), V11 VSS (power), W1 VSS (power), W3 VSS (power), W4 VSS (power), W5 VSS (power), W7 VSS (power), W8 VSS (power), W9 VSS (power)
part A text: OSC; PLL Power; OTP/eFUSE; PMU IO
part H text: MIPI OUT
part I text: TSADC
part J text: I2S
part K text: PMU IO
part L text: usb
part M text: DDR3/DDR4
part N text: ARM; GPU/Logic

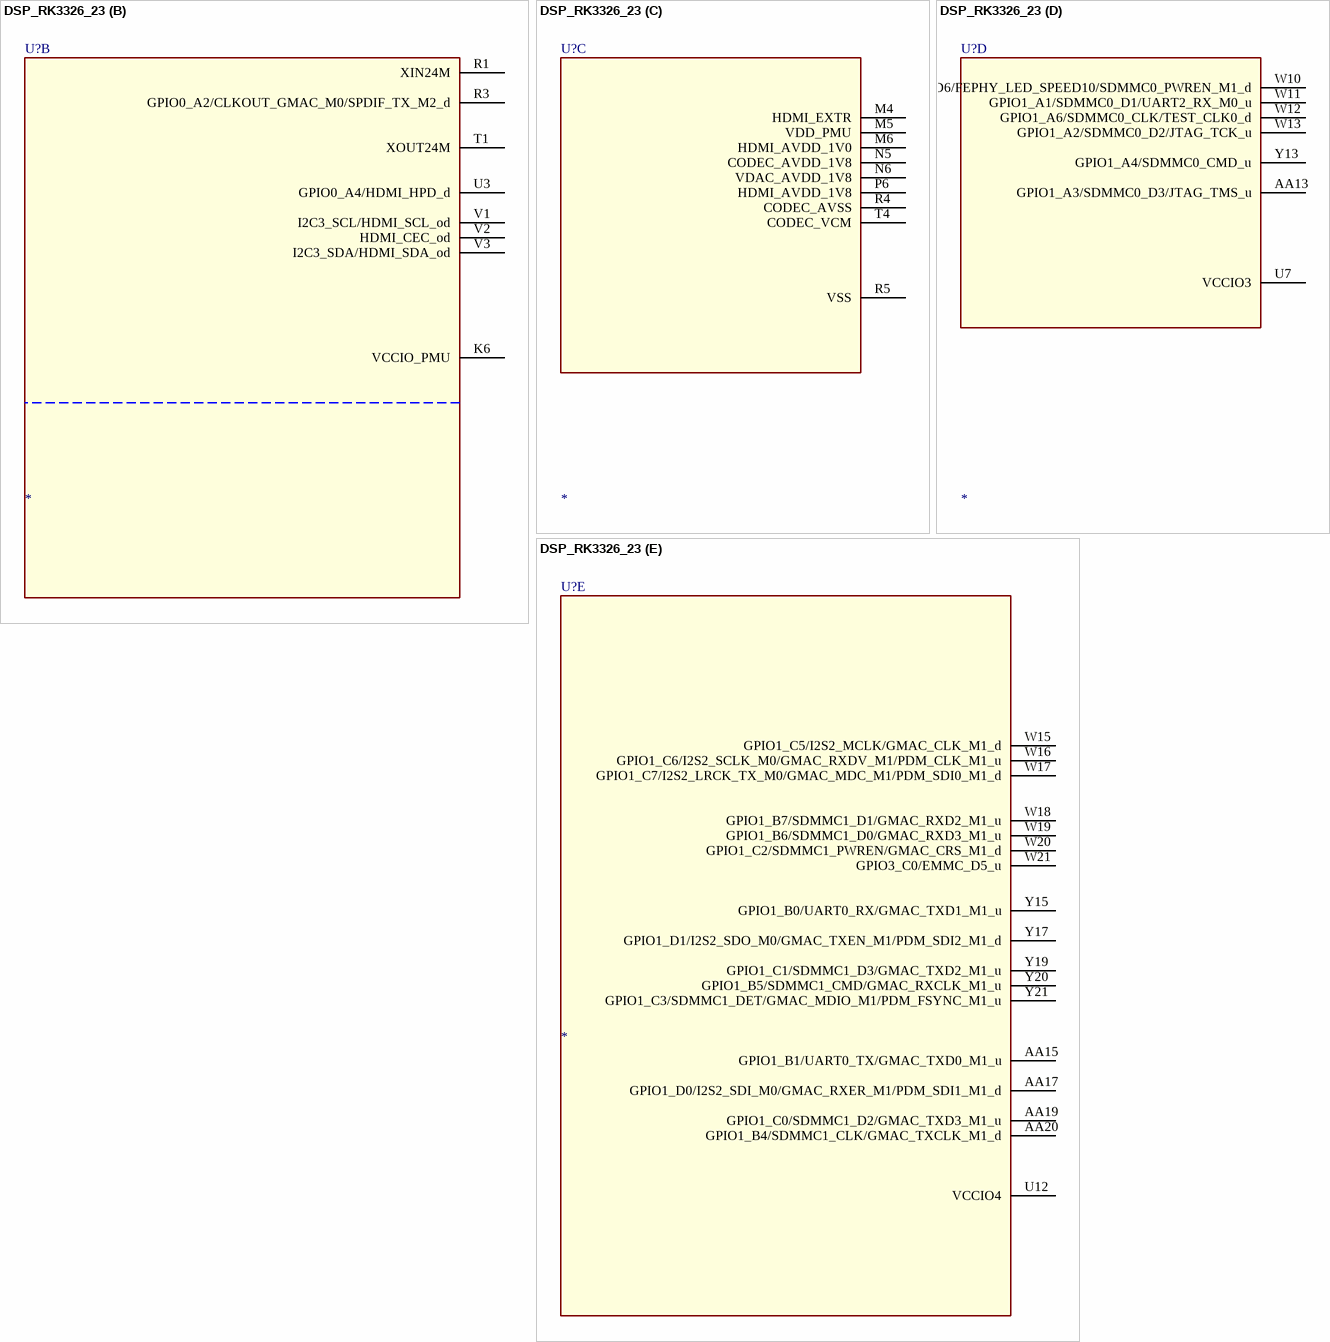
[diagram p87: symbol DSP_RK3326_23]

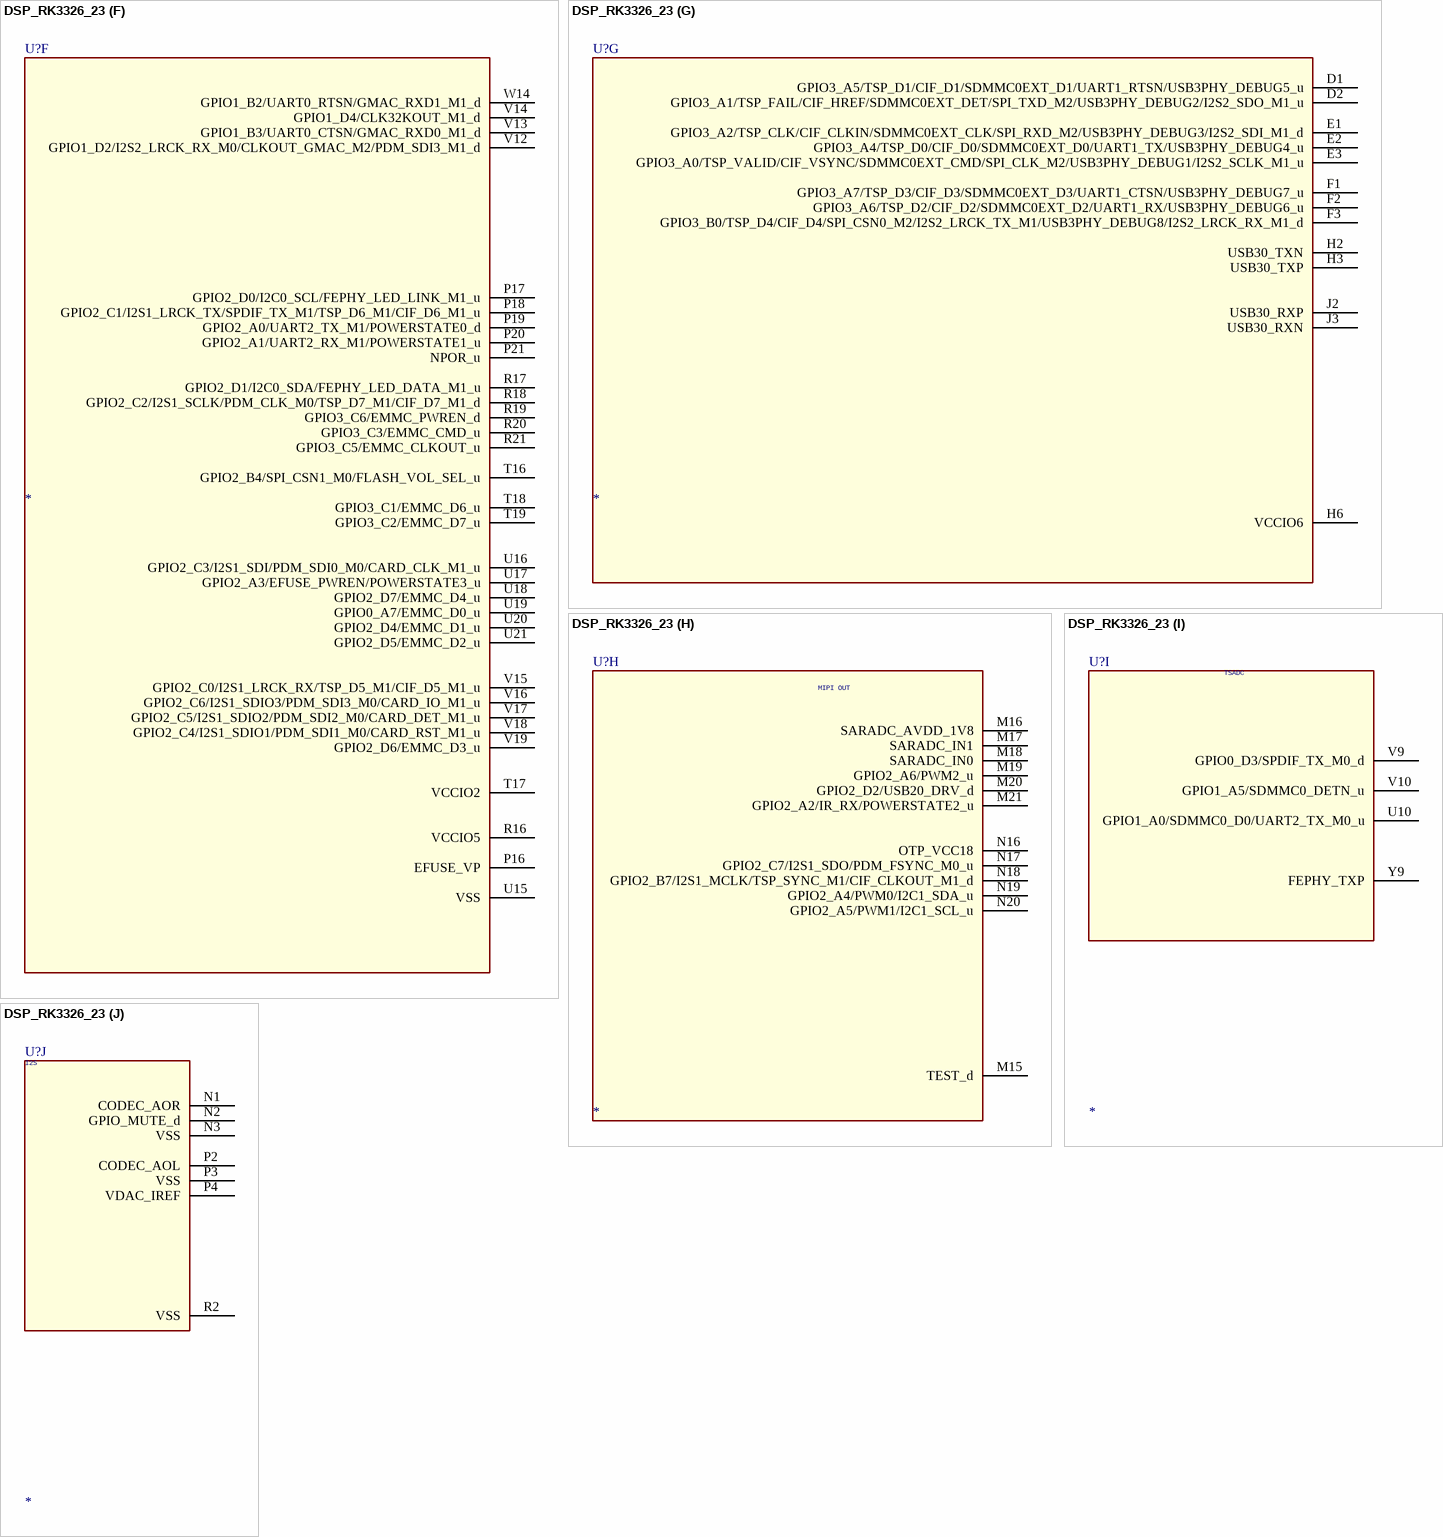
[diagram p88: symbol DSP_RK3326_23]

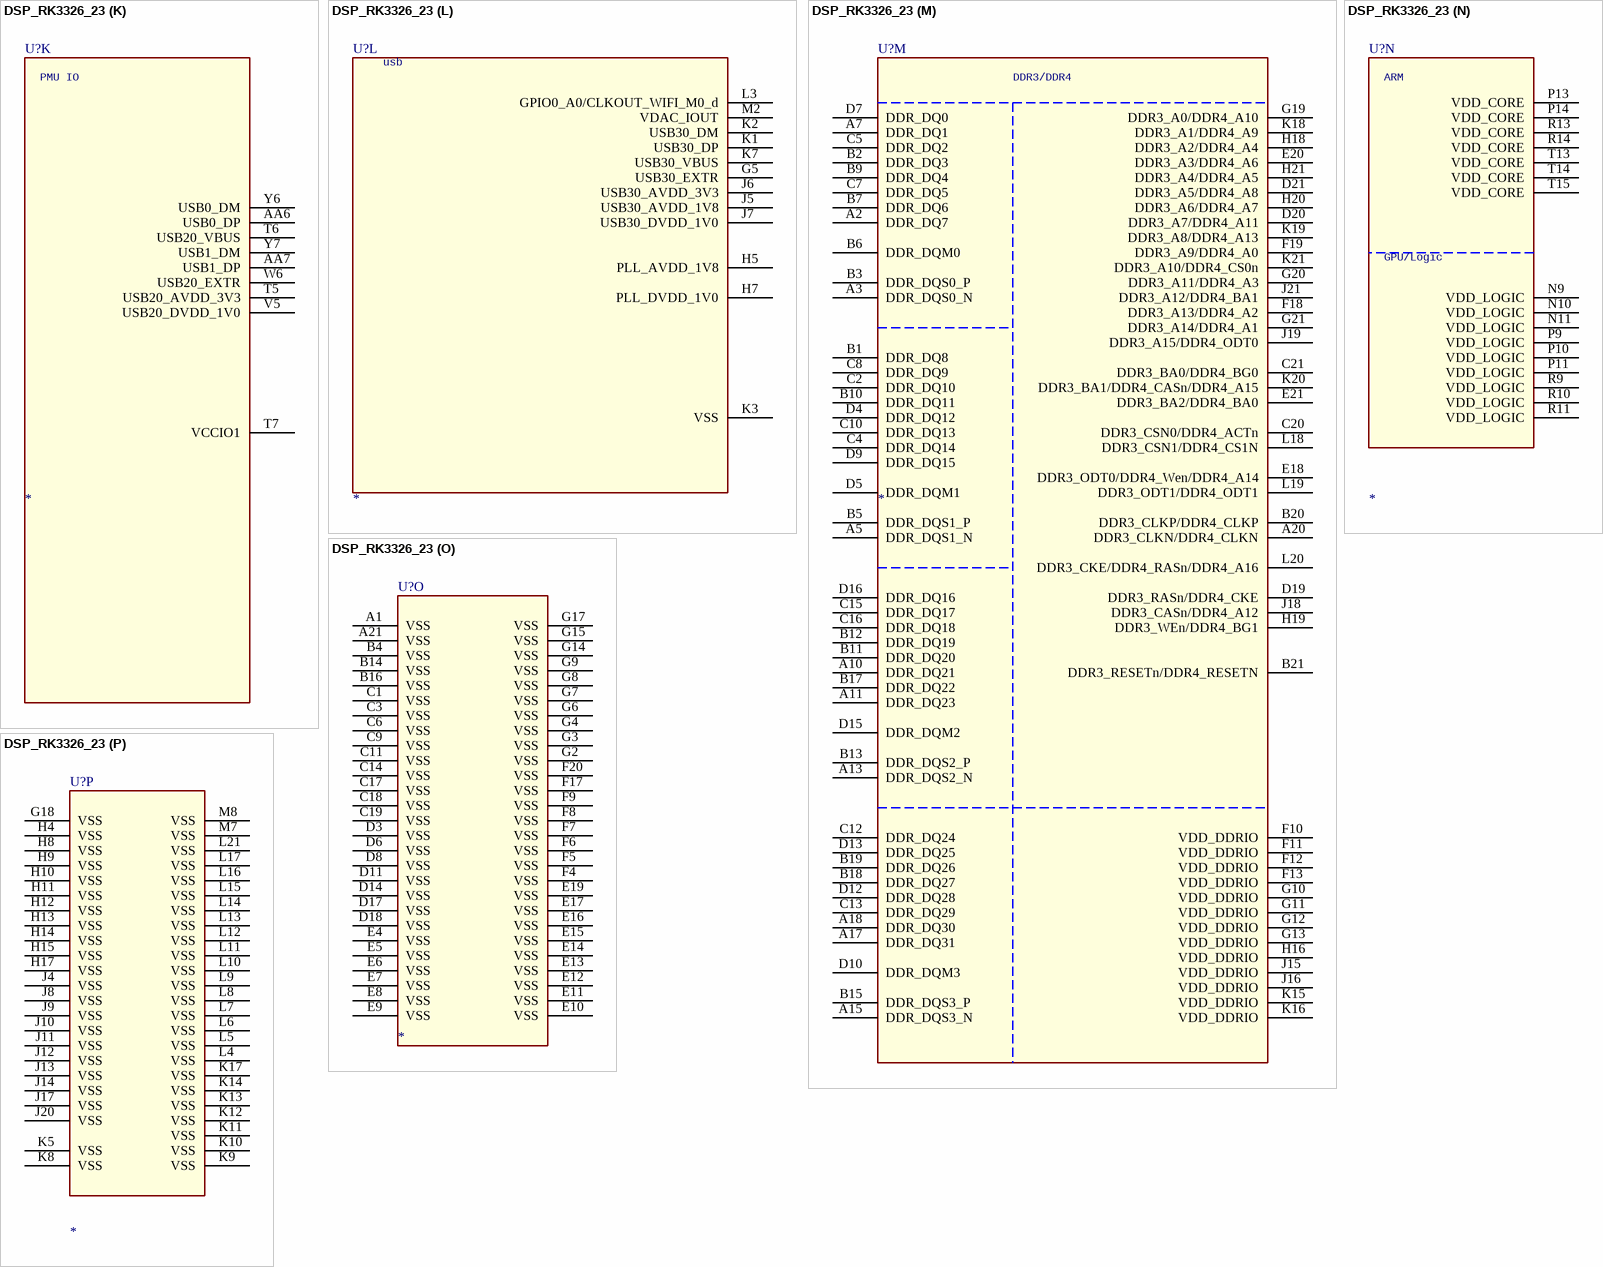
[diagram p89: symbol DSP_RK3326_23]

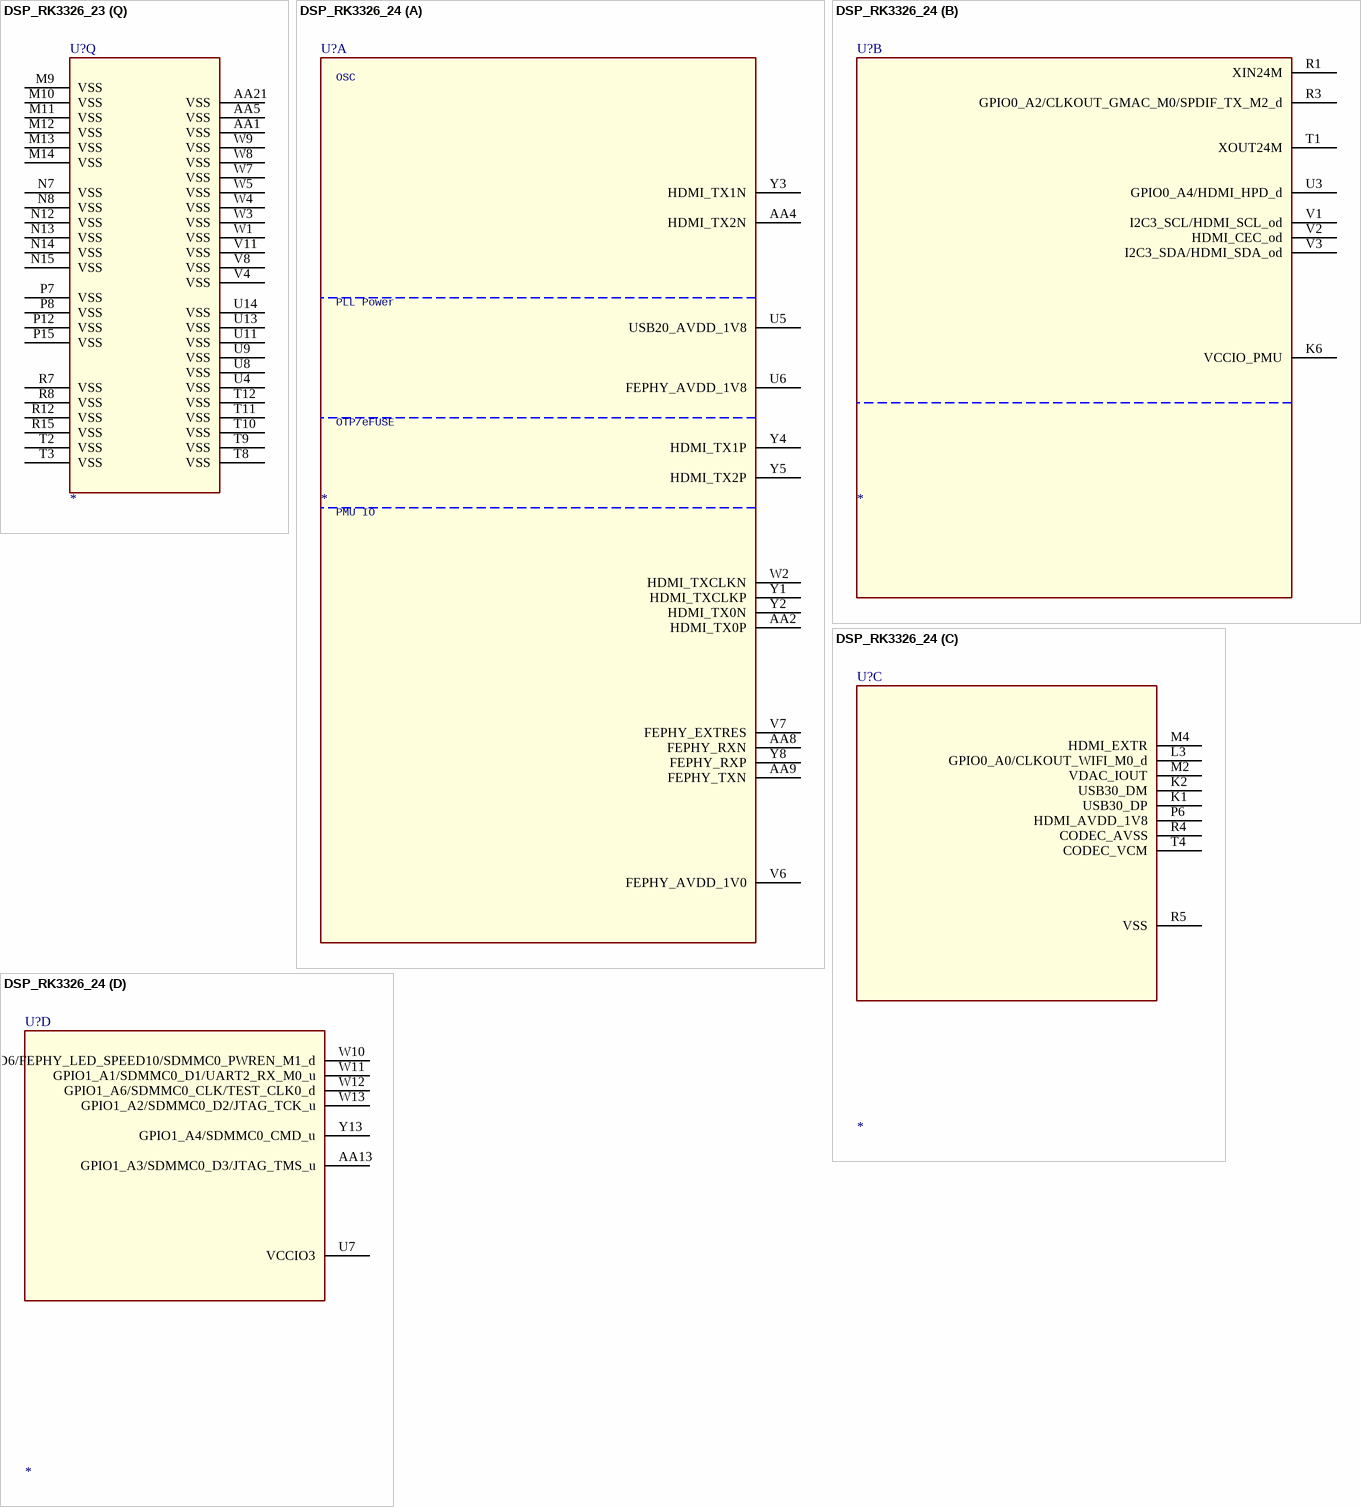
[diagram p90: symbols DSP_RK3326_23 to DSP_RK3326_24]

## DSP_RK3326_23
designator U?
footprint RK3228H_21X21
part A pins: AA2 HDMI_TX0P, AA4 HDMI_TX2N, AA8 FEPHY_RXN, AA9 FEPHY_TXN, U5 USB20_AVDD_1V8, U6 FEPHY_AVDD_1V8, V6 FEPHY_AVDD_1V0, V7 FEPHY_EXTRES, W2 HDMI_TXCLKN, Y1 HDMI_TXCLKP, Y2 HDMI_TX0N, Y3 HDMI_TX1N, Y4 HDMI_TX1P, Y5 HDMI_TX2P, Y8 FEPHY_RXP
part B pins: K6 VCCIO_PMU, R1 XIN24M, R3 GPIO0_A2/CLKOUT_GMAC_M0/SPDIF_TX_M2_d, T1 XOUT24M, U3 GPIO0_A4/HDMI_HPD_d, V1 I2C3_SCL/HDMI_SCL_od, V2 HDMI_CEC_od, V3 I2C3_SDA/HDMI_SDA_od
part C pins: M4 HDMI_EXTR, M5 VDD_PMU, M6 HDMI_AVDD_1V0, N5 CODEC_AVDD_1V8, N6 VDAC_AVDD_1V8, P6 HDMI_AVDD_1V8, R4 CODEC_AVSS, R5 VSS (power), T4 CODEC_VCM
part D pins: AA13 GPIO1_A3/SDMMC0_D3/JTAG_TMS_u, U7 VCCIO3, W10 GPIO0_D6/FEPHY_LED_SPEED10/SDMMC0_PWREN_M1_d, W11 GPIO1_A1/SDMMC0_D1/UART2_RX_M0_u, W12 GPIO1_A6/SDMMC0_CLK/TEST_CLK0_d, W13 GPIO1_A2/SDMMC0_D2/JTAG_TCK_u, Y13 GPIO1_A4/SDMMC0_CMD_u
part E pins: AA15 GPIO1_B1/UART0_TX/GMAC_TXD0_M1_u, AA17 GPIO1_D0/I2S2_SDI_M0/GMAC_RXER_M1/PDM_SDI1_M1_d, AA19 GPIO1_C0/SDMMC1_D2/GMAC_TXD3_M1_u, AA20 GPIO1_B4/SDMMC1_CLK/GMAC_TXCLK_M1_d, U12 VCCIO4, W15 GPIO1_C5/I2S2_MCLK/GMAC_CLK_M1_d, W16 GPIO1_C6/I2S2_SCLK_M0/GMAC_RXDV_M1/PDM_CLK_M1_u, W17 GPIO1_C7/I2S2_LRCK_TX_M0/GMAC_MDC_M1/PDM_SDI0_M1_d, W18 GPIO1_B7/SDMMC1_D1/GMAC_RXD2_M1_u, W19 GPIO1_B6/SDMMC1_D0/GMAC_RXD3_M1_u, W20 GPIO1_C2/SDMMC1_PWREN/GMAC_CRS_M1_d, W21 GPIO3_C0/EMMC_D5_u, Y15 GPIO1_B0/UART0_RX/GMAC_TXD1_M1_u, Y17 GPIO1_D1/I2S2_SDO_M0/GMAC_TXEN_M1/PDM_SDI2_M1_d, Y19 GPIO1_C1/SDMMC1_D3/GMAC_TXD2_M1_u, Y20 GPIO1_B5/SDMMC1_CMD/GMAC_RXCLK_M1_u, Y21 GPIO1_C3/SDMMC1_DET/GMAC_MDIO_M1/PDM_FSYNC_M1_u
part F pins: P16 EFUSE_VP, P17 GPIO2_D0/I2C0_SCL/FEPHY_LED_LINK_M1_u, P18 GPIO2_C1/I2S1_LRCK_TX/SPDIF_TX_M1/TSP_D6_M1/CIF_D6_M1_u, P19 GPIO2_A0/UART2_TX_M1/POWERSTATE0_d, P20 GPIO2_A1/UART2_RX_M1/POWERSTATE1_u, P21 NPOR_u, R16 VCCIO5, R17 GPIO2_D1/I2C0_SDA/FEPHY_LED_DATA_M1_u, R18 GPIO2_C2/I2S1_SCLK/PDM_CLK_M0/TSP_D7_M1/CIF_D7_M1_d, R19 GPIO3_C6/EMMC_PWREN_d, R20 GPIO3_C3/EMMC_CMD_u, R21 GPIO3_C5/EMMC_CLKOUT_u, T16 GPIO2_B4/SPI_CSN1_M0/FLASH_VOL_SEL_u, T17 VCCIO2, T18 GPIO3_C1/EMMC_D6_u, T19 GPIO3_C2/EMMC_D7_u, U15 VSS (power), U16 GPIO2_C3/I2S1_SDI/PDM_SDI0_M0/CARD_CLK_M1_u, U17 GPIO2_A3/EFUSE_PWREN/POWERSTATE3_u, U18 GPIO2_D7/EMMC_D4_u, U19 GPIO0_A7/EMMC_D0_u, U20 GPIO2_D4/EMMC_D1_u, U21 GPIO2_D5/EMMC_D2_u, V12 GPIO1_D2/I2S2_LRCK_RX_M0/CLKOUT_GMAC_M2/PDM_SDI3_M1_d, V13 GPIO1_B3/UART0_CTSN/GMAC_RXD0_M1_d, V14 GPIO1_D4/CLK32KOUT_M1_d, V15 GPIO2_C0/I2S1_LRCK_RX/TSP_D5_M1/CIF_D5_M1_u, V16 GPIO2_C6/I2S1_SDIO3/PDM_SDI3_M0/CARD_IO_M1_u, V17 GPIO2_C5/I2S1_SDIO2/PDM_SDI2_M0/CARD_DET_M1_u, V18 GPIO2_C4/I2S1_SDIO1/PDM_SDI1_M0/CARD_RST_M1_u, V19 GPIO2_D6/EMMC_D3_u, W14 GPIO1_B2/UART0_RTSN/GMAC_RXD1_M1_d
part G pins: D1 GPIO3_A5/TSP_D1/CIF_D1/SDMMC0EXT_D1/UART1_RTSN/USB3PHY_DEBUG5_u, D2 GPIO3_A1/TSP_FAIL/CIF_HREF/SDMMC0EXT_DET/SPI_TXD_M2/USB3PHY_DEBUG2/I2S2_SDO_M1_u, E1 GPIO3_A2/TSP_CLK/CIF_CLKIN/SDMMC0EXT_CLK/SPI_RXD_M2/USB3PHY_DEBUG3/I2S2_SDI_M1_d, E2 GPIO3_A4/TSP_D0/CIF_D0/SDMMC0EXT_D0/UART1_TX/USB3PHY_DEBUG4_u, E3 GPIO3_A0/TSP_VALID/CIF_VSYNC/SDMMC0EXT_CMD/SPI_CLK_M2/USB3PHY_DEBUG1/I2S2_SCLK_M1_u, F1 GPIO3_A7/TSP_D3/CIF_D3/SDMMC0EXT_D3/UART1_CTSN/USB3PHY_DEBUG7_u, F2 GPIO3_A6/TSP_D2/CIF_D2/SDMMC0EXT_D2/UART1_RX/USB3PHY_DEBUG6_u, F3 GPIO3_B0/TSP_D4/CIF_D4/SPI_CSN0_M2/I2S2_LRCK_TX_M1/USB3PHY_DEBUG8/I2S2_LRCK_RX_M1_d, H2 USB30_TXN, H3 USB30_TXP, H6 VCCIO6, J2 USB30_RXP, J3 USB30_RXN
part H pins: M15 TEST_d, M16 SARADC_AVDD_1V8, M17 SARADC_IN1, M18 SARADC_IN0, M19 GPIO2_A6/PWM2_u, M20 GPIO2_D2/USB20_DRV_d, M21 GPIO2_A2/IR_RX/POWERSTATE2_u, N16 OTP_VCC18, N17 GPIO2_C7/I2S1_SDO/PDM_FSYNC_M0_u, N18 GPIO2_B7/I2S1_MCLK/TSP_SYNC_M1/CIF_CLKOUT_M1_d, N19 GPIO2_A4/PWM0/I2C1_SDA_u, N20 GPIO2_A5/PWM1/I2C1_SCL_u
part I pins: U10 GPIO1_A0/SDMMC0_D0/UART2_TX_M0_u, V9 GPIO0_D3/SPDIF_TX_M0_d, V10 GPIO1_A5/SDMMC0_DETN_u, Y9 FEPHY_TXP
part J pins: N1 CODEC_AOR, N2 GPIO_MUTE_d, N3 VSS (power), P2 CODEC_AOL, P3 VSS (power), P4 VDAC_IREF, R2 VSS (power)
part K pins: AA6 USB0_DP, AA7 USB1_DP, T5 USB20_AVDD_3V3, T6 USB20_VBUS, T7 VCCIO1, V5 USB20_DVDD_1V0, W6 USB20_EXTR, Y6 USB0_DM, Y7 USB1_DM
part L pins: G5 USB30_EXTR, H5 PLL_AVDD_1V8, H7 PLL_DVDD_1V0, J5 USB30_AVDD_1V8, J6 USB30_AVDD_3V3, J7 USB30_DVDD_1V0, K1 USB30_DP, K2 USB30_DM, K3 VSS (power), K7 USB30_VBUS, L3 GPIO0_A0/CLKOUT_WIFI_M0_d, M2 VDAC_IOUT
part M pins: A2 DDR_DQ7, A3 DDR_DQS0_N, A5 DDR_DQS1_N, A7 DDR_DQ1, A10 DDR_DQ21, A11 DDR_DQ23, A13 DDR_DQS2_N, A15 DDR_DQS3_N, A17 DDR_DQ31, A18 DDR_DQ30, A20 DDR3_CLKN/DDR4_CLKN, B1 DDR_DQ8, B2 DDR_DQ3, B3 DDR_DQS0_P, B5 DDR_DQS1_P, B6 DDR_DQM0, B7 DDR_DQ6, B9 DDR_DQ4, B10 DDR_DQ11, B11 DDR_DQ20, B12 DDR_DQ19, B13 DDR_DQS2_P, B15 DDR_DQS3_P, B17 DDR_DQ22, B18 DDR_DQ27, B19 DDR_DQ26, B20 DDR3_CLKP/DDR4_CLKP, B21 DDR3_RESETn/DDR4_RESETN, C2 DDR_DQ10, C4 DDR_DQ14, C5 DDR_DQ2, C7 DDR_DQ5, C8 DDR_DQ9, C10 DDR_DQ13, C12 DDR_DQ24, C13 DDR_DQ29, C15 DDR_DQ17, C16 DDR_DQ18, C20 DDR3_CSN0/DDR4_ACTn, C21 DDR3_BA0/DDR4_BG0, D4 DDR_DQ12, D5 DDR_DQM1, D7 DDR_DQ0, D9 DDR_DQ15, D10 DDR_DQM3, D12 DDR_DQ28, D13 DDR_DQ25, D15 DDR_DQM2, D16 DDR_DQ16, D19 DDR3_RASn/DDR4_CKE, D20 DDR3_A7/DDR4_A11, D21 DDR3_A5/DDR4_A8, E18 DDR3_ODT0/DDR4_Wen/DDR4_A14, E20 DDR3_A3/DDR4_A6, E21 DDR3_BA2/DDR4_BA0, F10 VDD_DDRIO (power), F11 VDD_DDRIO (power), F12 VDD_DDRIO (power), F13 VDD_DDRIO (power), F18 DDR3_A13/DDR4_A2, F19 DDR3_A9/DDR4_A0, G10 VDD_DDRIO (power), G11 VDD_DDRIO (power), G12 VDD_DDRIO (power), G13 VDD_DDRIO (power), G19 DDR3_A0/DDR4_A10, G20 DDR3_A11/DDR4_A3, G21 DDR3_A14/DDR4_A1, H16 VDD_DDRIO (power), H18 DDR3_A2/DDR4_A4, H19 DDR3_WEn/DDR4_BG1, H20 DDR3_A6/DDR4_A7, H21 DDR3_A4/DDR4_A5, J15 VDD_DDRIO (power), J16 VDD_DDRIO (power), J18 DDR3_CASn/DDR4_A12, J19 DDR3_A15/DDR4_ODT0, J21 DDR3_A12/DDR4_BA1, K15 VDD_DDRIO (power), K16 VDD_DDRIO (power), K18 DDR3_A1/DDR4_A9, K19 DDR3_A8/DDR4_A13, K20 DDR3_BA1/DDR4_CASn/DDR4_A15, K21 DDR3_A10/DDR4_CS0n, L18 DDR3_CSN1/DDR4_CS1N, L19 DDR3_ODT1/DDR4_ODT1, L20 DDR3_CKE/DDR4_RASn/DDR4_A16
part N pins: N9 VDD_LOGIC (power), N10 VDD_LOGIC (power), N11 VDD_LOGIC (power), P9 VDD_LOGIC (power), P10 VDD_LOGIC (power), P11 VDD_LOGIC (power), P13 VDD_CORE (power), P14 VDD_CORE (power), R9 VDD_LOGIC (power), R10 VDD_LOGIC (power), R11 VDD_LOGIC (power), R13 VDD_CORE (power), R14 VDD_CORE (power), T13 VDD_CORE (power), T14 VDD_CORE (power), T15 VDD_CORE (power)
part O pins: A1 VSS (power), A21 VSS (power), B4 VSS (power), B14 VSS (power), B16 VSS (power), C1 VSS (power), C3 VSS (power), C6 VSS (power), C9 VSS (power), C11 VSS (power), C14 VSS (power), C17 VSS (power), C18 VSS (power), C19 VSS (power), D3 VSS (power), D6 VSS (power), D8 VSS (power), D11 VSS (power), D14 VSS (power), D17 VSS (power), D18 VSS (power), E4 VSS (power), E5 VSS (power), E6 VSS (power), E7 VSS (power), E8 VSS (power), E9 VSS (power), E10 VSS (power), E11 VSS (power), E12 VSS (power), E13 VSS (power), E14 VSS (power), E15 VSS (power), E16 VSS (power), E17 VSS (power), E19 VSS (power), F4 VSS (power), F5 VSS (power), F6 VSS (power), F7 VSS (power), F8 VSS (power), F9 VSS (power), F17 VSS (power), F20 VSS (power), G2 VSS (power), G3 VSS (power), G4 VSS (power), G6 VSS (power), G7 VSS (power), G8 VSS (power), G9 VSS (power), G14 VSS (power), G15 VSS (power), G17 VSS (power)
part P pins: G18 VSS (power), H4 VSS (power), H8 VSS (power), H9 VSS (power), H10 VSS (power), H11 VSS (power), H12 VSS (power), H13 VSS (power), H14 VSS (power), H15 VSS (power), H17 VSS (power), J4 VSS (power), J8 VSS (power), J9 VSS (power), J10 VSS (power), J11 VSS (power), J12 VSS (power), J13 VSS (power), J14 VSS (power), J17 VSS (power), J20 VSS (power), K5 VSS (power), K8 VSS (power), K9 VSS (power), K10 VSS (power), K11 VSS (power), K12 VSS (power), K13 VSS (power), K14 VSS (power), K17 VSS (power), L4 VSS (power), L5 VSS (power), L6 VSS (power), L7 VSS (power), L8 VSS (power), L9 VSS (power), L10 VSS (power), L11 VSS (power), L12 VSS (power), L13 VSS (power), L14 VSS (power), L15 VSS (power), L16 VSS (power), L17 VSS (power), L21 VSS (power), M7 VSS (power), M8 VSS (power)
part Q pins: AA1 VSS (power), AA5 VSS (power), AA21 VSS (power), M9 VSS (power), M10 VSS (power), M11 VSS (power), M12 VSS (power), M13 VSS (power), M14 VSS (power), N7 VSS (power), N8 VSS (power), N12 VSS (power), N13 VSS (power), N14 VSS (power), N15 VSS (power), P7 VSS (power), P8 VSS (power), P12 VSS (power), P15 VSS (power), R7 VSS (power), R8 VSS (power), R12 VSS (power), R15 VSS (power), T2 VSS (power), T3 VSS (power), T8 VSS (power), T9 VSS (power), T10 VSS (power), T11 VSS (power), T12 VSS (power), U4 VSS (power), U8 VSS (power), U9 VSS (power), U11 VSS (power), U13 VSS (power), U14 VSS (power), V4 VSS (power), V8 VSS (power), V11 VSS (power), W1 VSS (power), W3 VSS (power), W4 VSS (power), W5 VSS (power), W7 VSS (power), W8 VSS (power), W9 VSS (power)
part A text: OSC; PLL Power; OTP/eFUSE; PMU IO
part H text: MIPI OUT
part I text: TSADC
part J text: I2S
part K text: PMU IO
part L text: usb
part M text: DDR3/DDR4
part N text: ARM; GPU/Logic

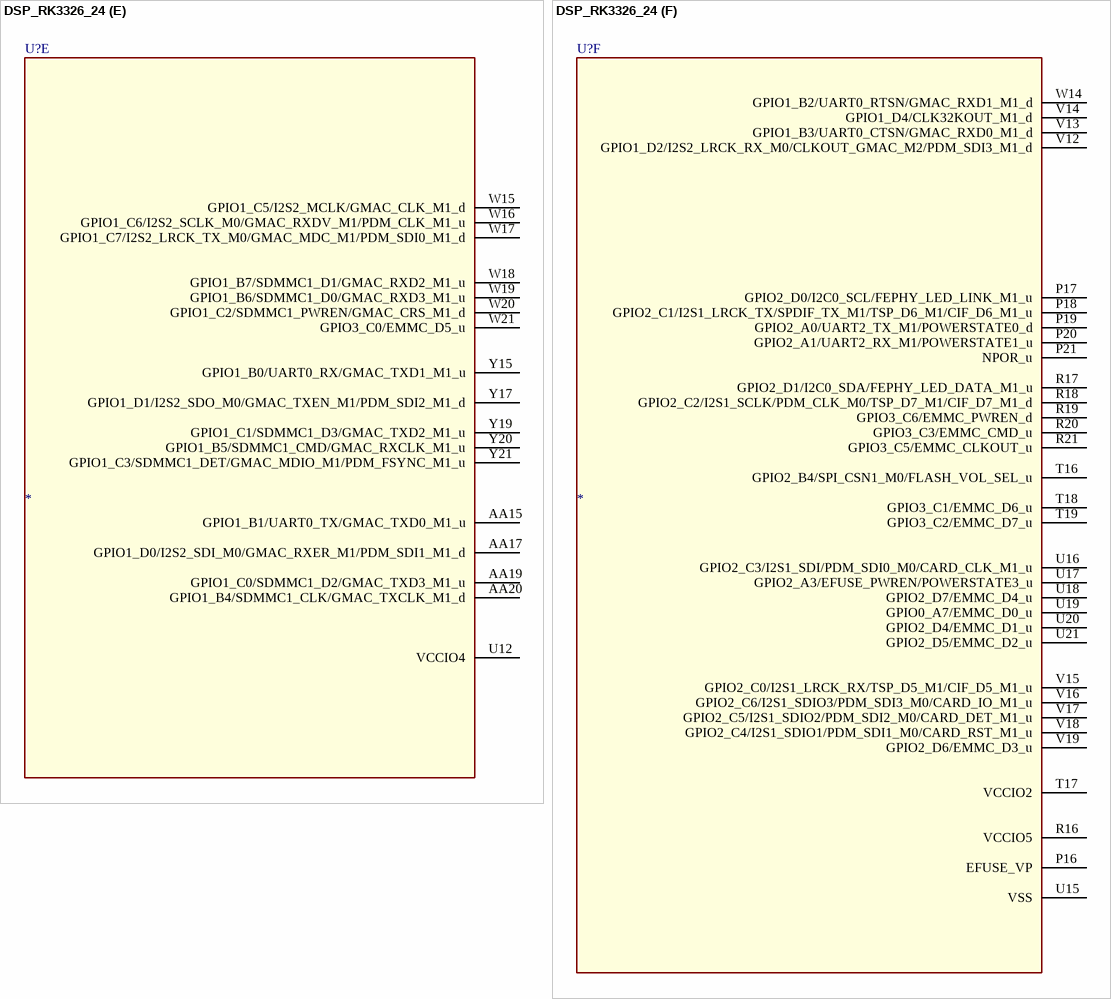
[diagram p91: symbol DSP_RK3326_24]

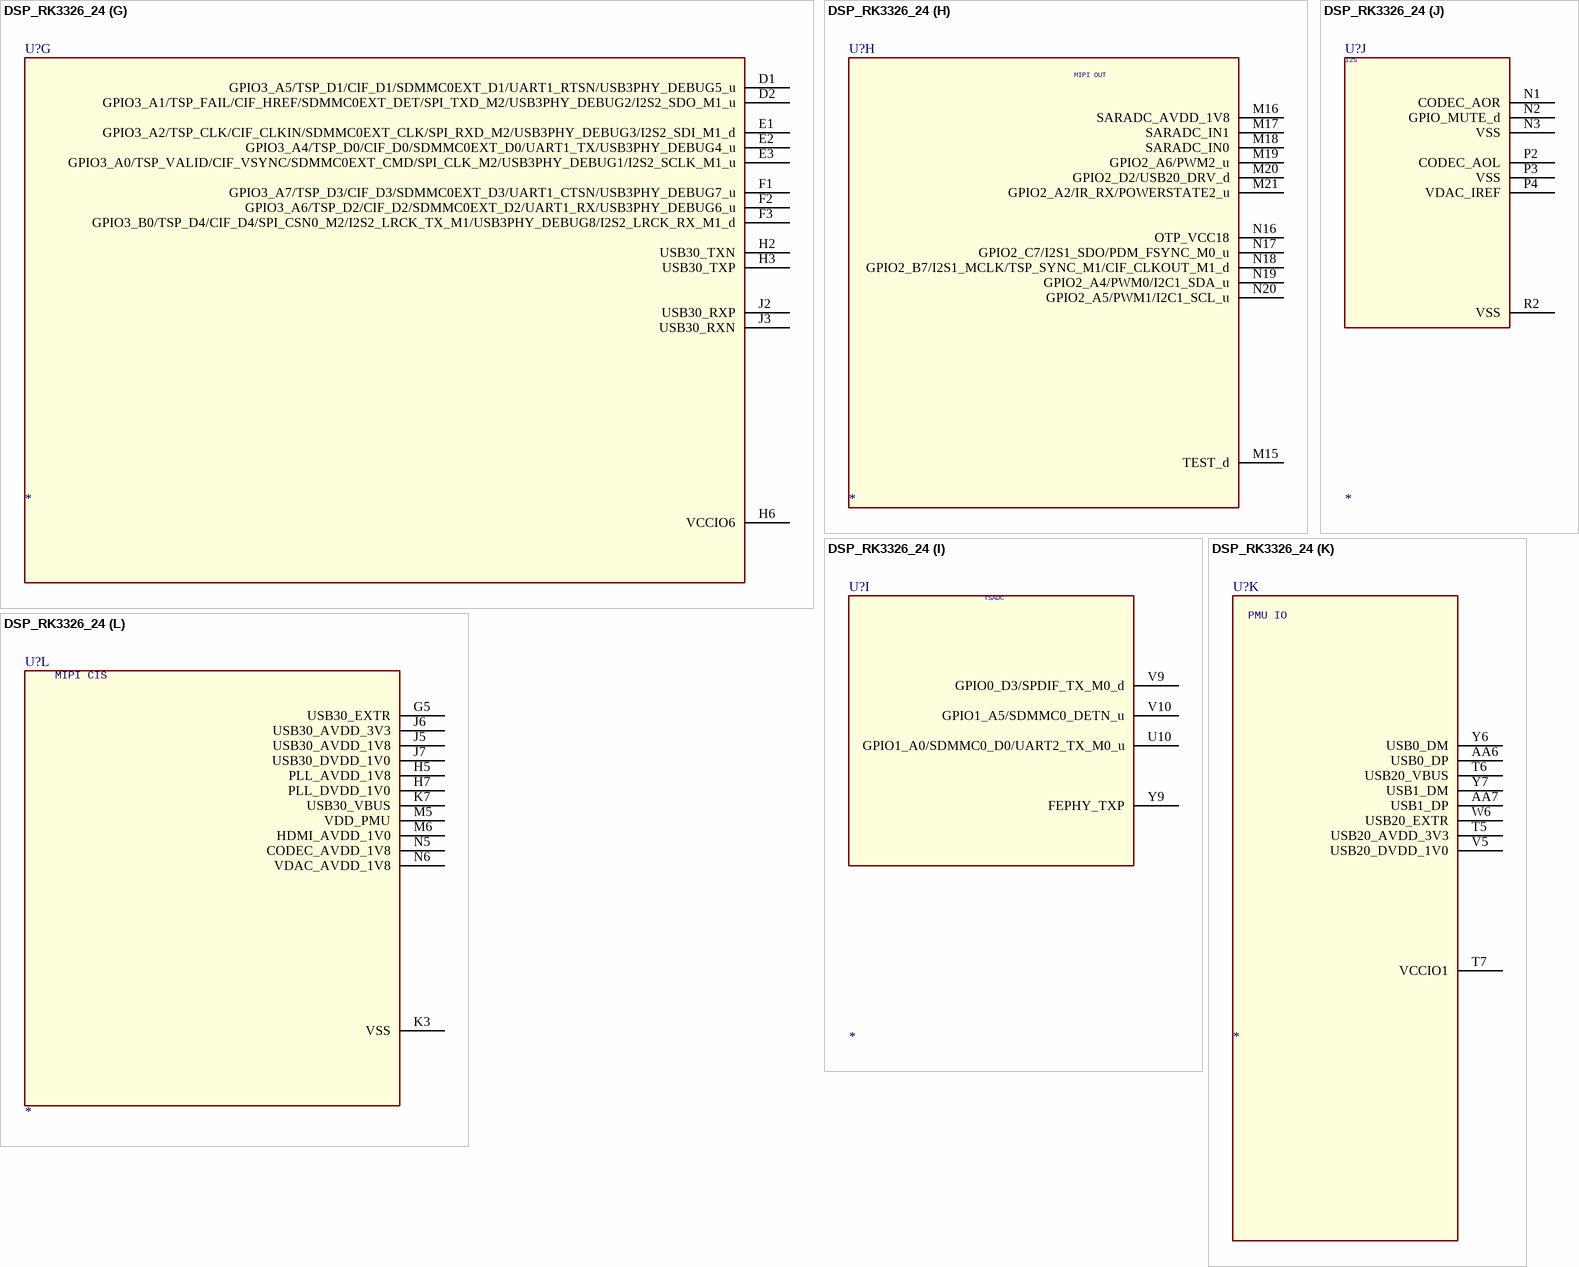
[diagram p92: symbol DSP_RK3326_24]

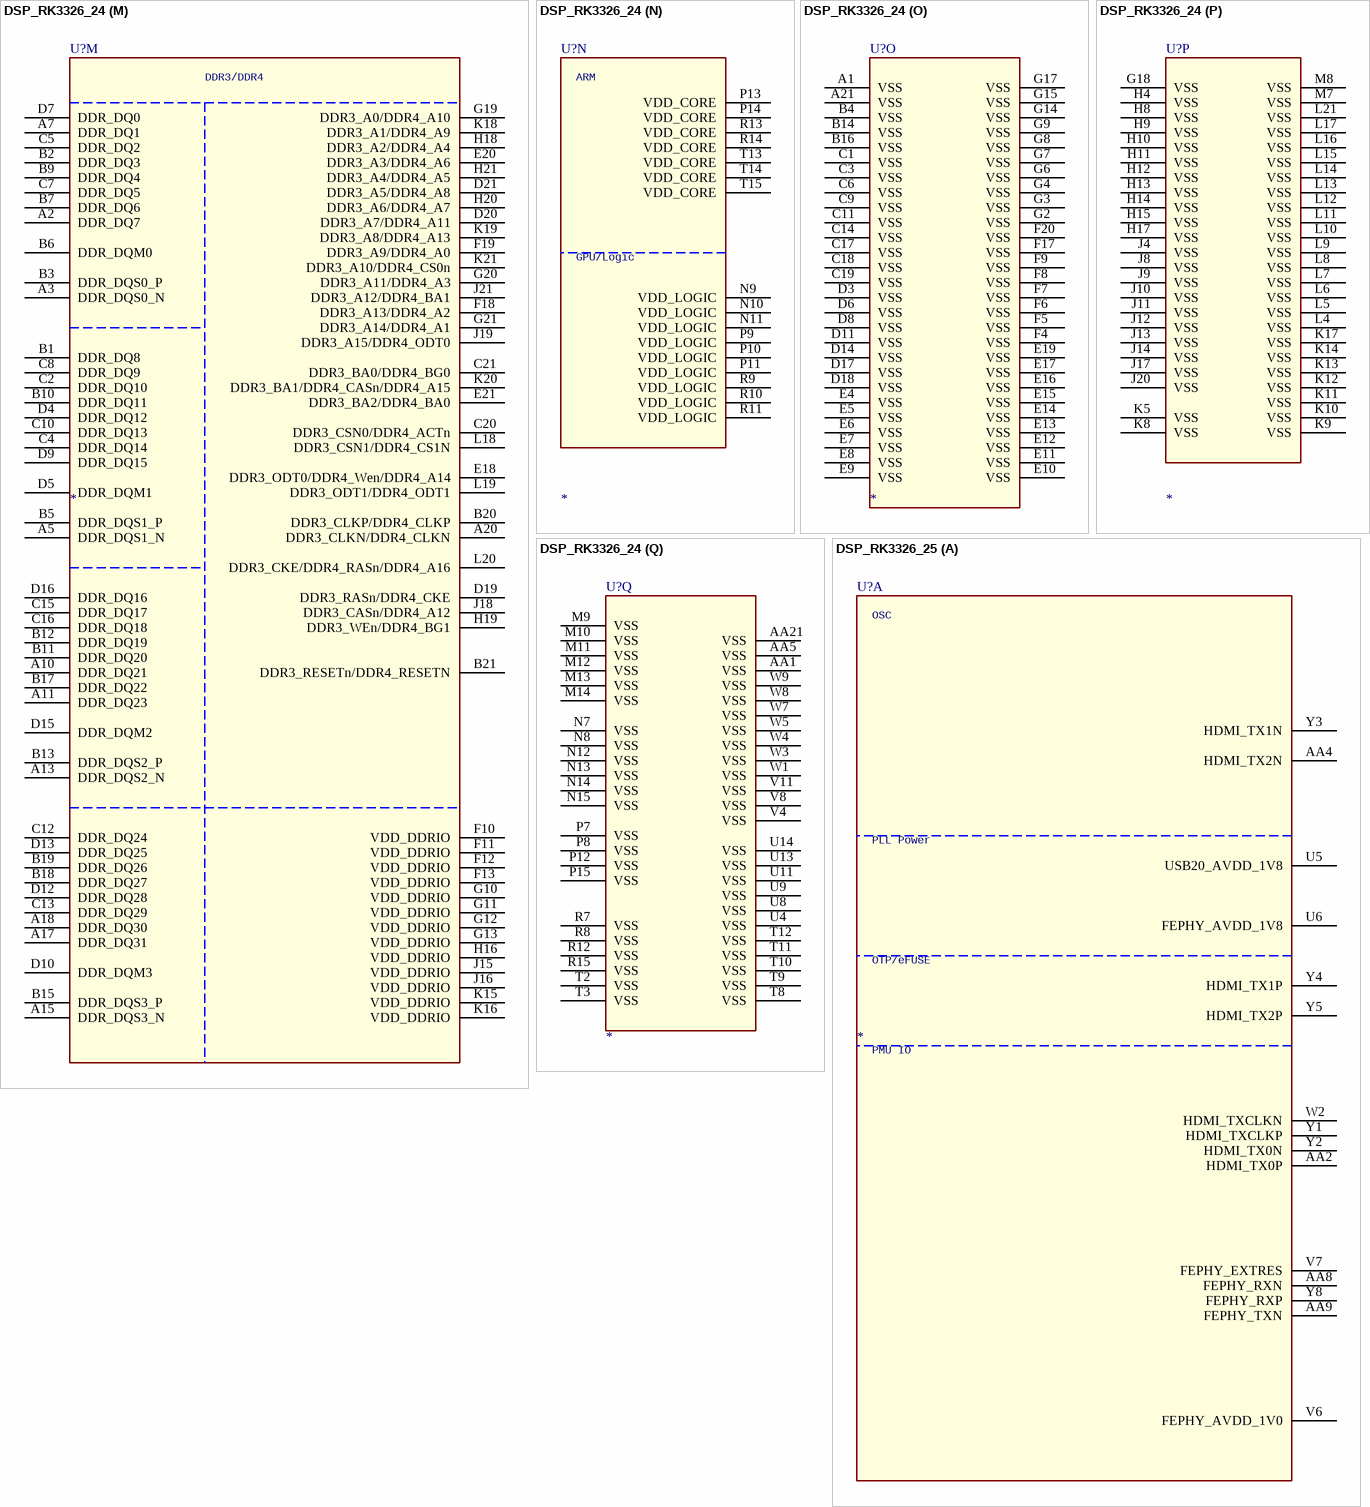
[diagram p93: symbols DSP_RK3326_24 to DSP_RK3326_25]

## DSP_RK3326_24
designator U?
footprint RK3228H_21X21
part A pins: AA2 HDMI_TX0P, AA4 HDMI_TX2N, AA8 FEPHY_RXN, AA9 FEPHY_TXN, U5 USB20_AVDD_1V8, U6 FEPHY_AVDD_1V8, V6 FEPHY_AVDD_1V0, V7 FEPHY_EXTRES, W2 HDMI_TXCLKN, Y1 HDMI_TXCLKP, Y2 HDMI_TX0N, Y3 HDMI_TX1N, Y4 HDMI_TX1P, Y5 HDMI_TX2P, Y8 FEPHY_RXP
part B pins: K6 VCCIO_PMU, R1 XIN24M, R3 GPIO0_A2/CLKOUT_GMAC_M0/SPDIF_TX_M2_d, T1 XOUT24M, U3 GPIO0_A4/HDMI_HPD_d, V1 I2C3_SCL/HDMI_SCL_od, V2 HDMI_CEC_od, V3 I2C3_SDA/HDMI_SDA_od
part C pins: K1 USB30_DP, K2 USB30_DM, L3 GPIO0_A0/CLKOUT_WIFI_M0_d, M2 VDAC_IOUT, M4 HDMI_EXTR, P6 HDMI_AVDD_1V8, R4 CODEC_AVSS, R5 VSS (power), T4 CODEC_VCM
part D pins: AA13 GPIO1_A3/SDMMC0_D3/JTAG_TMS_u, U7 VCCIO3, W10 GPIO0_D6/FEPHY_LED_SPEED10/SDMMC0_PWREN_M1_d, W11 GPIO1_A1/SDMMC0_D1/UART2_RX_M0_u, W12 GPIO1_A6/SDMMC0_CLK/TEST_CLK0_d, W13 GPIO1_A2/SDMMC0_D2/JTAG_TCK_u, Y13 GPIO1_A4/SDMMC0_CMD_u
part E pins: AA15 GPIO1_B1/UART0_TX/GMAC_TXD0_M1_u, AA17 GPIO1_D0/I2S2_SDI_M0/GMAC_RXER_M1/PDM_SDI1_M1_d, AA19 GPIO1_C0/SDMMC1_D2/GMAC_TXD3_M1_u, AA20 GPIO1_B4/SDMMC1_CLK/GMAC_TXCLK_M1_d, U12 VCCIO4, W15 GPIO1_C5/I2S2_MCLK/GMAC_CLK_M1_d, W16 GPIO1_C6/I2S2_SCLK_M0/GMAC_RXDV_M1/PDM_CLK_M1_u, W17 GPIO1_C7/I2S2_LRCK_TX_M0/GMAC_MDC_M1/PDM_SDI0_M1_d, W18 GPIO1_B7/SDMMC1_D1/GMAC_RXD2_M1_u, W19 GPIO1_B6/SDMMC1_D0/GMAC_RXD3_M1_u, W20 GPIO1_C2/SDMMC1_PWREN/GMAC_CRS_M1_d, W21 GPIO3_C0/EMMC_D5_u, Y15 GPIO1_B0/UART0_RX/GMAC_TXD1_M1_u, Y17 GPIO1_D1/I2S2_SDO_M0/GMAC_TXEN_M1/PDM_SDI2_M1_d, Y19 GPIO1_C1/SDMMC1_D3/GMAC_TXD2_M1_u, Y20 GPIO1_B5/SDMMC1_CMD/GMAC_RXCLK_M1_u, Y21 GPIO1_C3/SDMMC1_DET/GMAC_MDIO_M1/PDM_FSYNC_M1_u
part F pins: P16 EFUSE_VP, P17 GPIO2_D0/I2C0_SCL/FEPHY_LED_LINK_M1_u, P18 GPIO2_C1/I2S1_LRCK_TX/SPDIF_TX_M1/TSP_D6_M1/CIF_D6_M1_u, P19 GPIO2_A0/UART2_TX_M1/POWERSTATE0_d, P20 GPIO2_A1/UART2_RX_M1/POWERSTATE1_u, P21 NPOR_u, R16 VCCIO5, R17 GPIO2_D1/I2C0_SDA/FEPHY_LED_DATA_M1_u, R18 GPIO2_C2/I2S1_SCLK/PDM_CLK_M0/TSP_D7_M1/CIF_D7_M1_d, R19 GPIO3_C6/EMMC_PWREN_d, R20 GPIO3_C3/EMMC_CMD_u, R21 GPIO3_C5/EMMC_CLKOUT_u, T16 GPIO2_B4/SPI_CSN1_M0/FLASH_VOL_SEL_u, T17 VCCIO2, T18 GPIO3_C1/EMMC_D6_u, T19 GPIO3_C2/EMMC_D7_u, U15 VSS (power), U16 GPIO2_C3/I2S1_SDI/PDM_SDI0_M0/CARD_CLK_M1_u, U17 GPIO2_A3/EFUSE_PWREN/POWERSTATE3_u, U18 GPIO2_D7/EMMC_D4_u, U19 GPIO0_A7/EMMC_D0_u, U20 GPIO2_D4/EMMC_D1_u, U21 GPIO2_D5/EMMC_D2_u, V12 GPIO1_D2/I2S2_LRCK_RX_M0/CLKOUT_GMAC_M2/PDM_SDI3_M1_d, V13 GPIO1_B3/UART0_CTSN/GMAC_RXD0_M1_d, V14 GPIO1_D4/CLK32KOUT_M1_d, V15 GPIO2_C0/I2S1_LRCK_RX/TSP_D5_M1/CIF_D5_M1_u, V16 GPIO2_C6/I2S1_SDIO3/PDM_SDI3_M0/CARD_IO_M1_u, V17 GPIO2_C5/I2S1_SDIO2/PDM_SDI2_M0/CARD_DET_M1_u, V18 GPIO2_C4/I2S1_SDIO1/PDM_SDI1_M0/CARD_RST_M1_u, V19 GPIO2_D6/EMMC_D3_u, W14 GPIO1_B2/UART0_RTSN/GMAC_RXD1_M1_d
part G pins: D1 GPIO3_A5/TSP_D1/CIF_D1/SDMMC0EXT_D1/UART1_RTSN/USB3PHY_DEBUG5_u, D2 GPIO3_A1/TSP_FAIL/CIF_HREF/SDMMC0EXT_DET/SPI_TXD_M2/USB3PHY_DEBUG2/I2S2_SDO_M1_u, E1 GPIO3_A2/TSP_CLK/CIF_CLKIN/SDMMC0EXT_CLK/SPI_RXD_M2/USB3PHY_DEBUG3/I2S2_SDI_M1_d, E2 GPIO3_A4/TSP_D0/CIF_D0/SDMMC0EXT_D0/UART1_TX/USB3PHY_DEBUG4_u, E3 GPIO3_A0/TSP_VALID/CIF_VSYNC/SDMMC0EXT_CMD/SPI_CLK_M2/USB3PHY_DEBUG1/I2S2_SCLK_M1_u, F1 GPIO3_A7/TSP_D3/CIF_D3/SDMMC0EXT_D3/UART1_CTSN/USB3PHY_DEBUG7_u, F2 GPIO3_A6/TSP_D2/CIF_D2/SDMMC0EXT_D2/UART1_RX/USB3PHY_DEBUG6_u, F3 GPIO3_B0/TSP_D4/CIF_D4/SPI_CSN0_M2/I2S2_LRCK_TX_M1/USB3PHY_DEBUG8/I2S2_LRCK_RX_M1_d, H2 USB30_TXN, H3 USB30_TXP, H6 VCCIO6, J2 USB30_RXP, J3 USB30_RXN
part H pins: M15 TEST_d, M16 SARADC_AVDD_1V8, M17 SARADC_IN1, M18 SARADC_IN0, M19 GPIO2_A6/PWM2_u, M20 GPIO2_D2/USB20_DRV_d, M21 GPIO2_A2/IR_RX/POWERSTATE2_u, N16 OTP_VCC18, N17 GPIO2_C7/I2S1_SDO/PDM_FSYNC_M0_u, N18 GPIO2_B7/I2S1_MCLK/TSP_SYNC_M1/CIF_CLKOUT_M1_d, N19 GPIO2_A4/PWM0/I2C1_SDA_u, N20 GPIO2_A5/PWM1/I2C1_SCL_u
part I pins: U10 GPIO1_A0/SDMMC0_D0/UART2_TX_M0_u, V9 GPIO0_D3/SPDIF_TX_M0_d, V10 GPIO1_A5/SDMMC0_DETN_u, Y9 FEPHY_TXP
part J pins: N1 CODEC_AOR, N2 GPIO_MUTE_d, N3 VSS (power), P2 CODEC_AOL, P3 VSS (power), P4 VDAC_IREF, R2 VSS (power)
part K pins: AA6 USB0_DP, AA7 USB1_DP, T5 USB20_AVDD_3V3, T6 USB20_VBUS, T7 VCCIO1, V5 USB20_DVDD_1V0, W6 USB20_EXTR, Y6 USB0_DM, Y7 USB1_DM
part L pins: G5 USB30_EXTR, H5 PLL_AVDD_1V8, H7 PLL_DVDD_1V0, J5 USB30_AVDD_1V8, J6 USB30_AVDD_3V3, J7 USB30_DVDD_1V0, K3 VSS (power), K7 USB30_VBUS, M5 VDD_PMU, M6 HDMI_AVDD_1V0, N5 CODEC_AVDD_1V8, N6 VDAC_AVDD_1V8
part M pins: A2 DDR_DQ7, A3 DDR_DQS0_N, A5 DDR_DQS1_N, A7 DDR_DQ1, A10 DDR_DQ21, A11 DDR_DQ23, A13 DDR_DQS2_N, A15 DDR_DQS3_N, A17 DDR_DQ31, A18 DDR_DQ30, A20 DDR3_CLKN/DDR4_CLKN, B1 DDR_DQ8, B2 DDR_DQ3, B3 DDR_DQS0_P, B5 DDR_DQS1_P, B6 DDR_DQM0, B7 DDR_DQ6, B9 DDR_DQ4, B10 DDR_DQ11, B11 DDR_DQ20, B12 DDR_DQ19, B13 DDR_DQS2_P, B15 DDR_DQS3_P, B17 DDR_DQ22, B18 DDR_DQ27, B19 DDR_DQ26, B20 DDR3_CLKP/DDR4_CLKP, B21 DDR3_RESETn/DDR4_RESETN, C2 DDR_DQ10, C4 DDR_DQ14, C5 DDR_DQ2, C7 DDR_DQ5, C8 DDR_DQ9, C10 DDR_DQ13, C12 DDR_DQ24, C13 DDR_DQ29, C15 DDR_DQ17, C16 DDR_DQ18, C20 DDR3_CSN0/DDR4_ACTn, C21 DDR3_BA0/DDR4_BG0, D4 DDR_DQ12, D5 DDR_DQM1, D7 DDR_DQ0, D9 DDR_DQ15, D10 DDR_DQM3, D12 DDR_DQ28, D13 DDR_DQ25, D15 DDR_DQM2, D16 DDR_DQ16, D19 DDR3_RASn/DDR4_CKE, D20 DDR3_A7/DDR4_A11, D21 DDR3_A5/DDR4_A8, E18 DDR3_ODT0/DDR4_Wen/DDR4_A14, E20 DDR3_A3/DDR4_A6, E21 DDR3_BA2/DDR4_BA0, F10 VDD_DDRIO (power), F11 VDD_DDRIO (power), F12 VDD_DDRIO (power), F13 VDD_DDRIO (power), F18 DDR3_A13/DDR4_A2, F19 DDR3_A9/DDR4_A0, G10 VDD_DDRIO (power), G11 VDD_DDRIO (power), G12 VDD_DDRIO (power), G13 VDD_DDRIO (power), G19 DDR3_A0/DDR4_A10, G20 DDR3_A11/DDR4_A3, G21 DDR3_A14/DDR4_A1, H16 VDD_DDRIO (power), H18 DDR3_A2/DDR4_A4, H19 DDR3_WEn/DDR4_BG1, H20 DDR3_A6/DDR4_A7, H21 DDR3_A4/DDR4_A5, J15 VDD_DDRIO (power), J16 VDD_DDRIO (power), J18 DDR3_CASn/DDR4_A12, J19 DDR3_A15/DDR4_ODT0, J21 DDR3_A12/DDR4_BA1, K15 VDD_DDRIO (power), K16 VDD_DDRIO (power), K18 DDR3_A1/DDR4_A9, K19 DDR3_A8/DDR4_A13, K20 DDR3_BA1/DDR4_CASn/DDR4_A15, K21 DDR3_A10/DDR4_CS0n, L18 DDR3_CSN1/DDR4_CS1N, L19 DDR3_ODT1/DDR4_ODT1, L20 DDR3_CKE/DDR4_RASn/DDR4_A16
part N pins: N9 VDD_LOGIC (power), N10 VDD_LOGIC (power), N11 VDD_LOGIC (power), P9 VDD_LOGIC (power), P10 VDD_LOGIC (power), P11 VDD_LOGIC (power), P13 VDD_CORE (power), P14 VDD_CORE (power), R9 VDD_LOGIC (power), R10 VDD_LOGIC (power), R11 VDD_LOGIC (power), R13 VDD_CORE (power), R14 VDD_CORE (power), T13 VDD_CORE (power), T14 VDD_CORE (power), T15 VDD_CORE (power)
part O pins: A1 VSS (power), A21 VSS (power), B4 VSS (power), B14 VSS (power), B16 VSS (power), C1 VSS (power), C3 VSS (power), C6 VSS (power), C9 VSS (power), C11 VSS (power), C14 VSS (power), C17 VSS (power), C18 VSS (power), C19 VSS (power), D3 VSS (power), D6 VSS (power), D8 VSS (power), D11 VSS (power), D14 VSS (power), D17 VSS (power), D18 VSS (power), E4 VSS (power), E5 VSS (power), E6 VSS (power), E7 VSS (power), E8 VSS (power), E9 VSS (power), E10 VSS (power), E11 VSS (power), E12 VSS (power), E13 VSS (power), E14 VSS (power), E15 VSS (power), E16 VSS (power), E17 VSS (power), E19 VSS (power), F4 VSS (power), F5 VSS (power), F6 VSS (power), F7 VSS (power), F8 VSS (power), F9 VSS (power), F17 VSS (power), F20 VSS (power), G2 VSS (power), G3 VSS (power), G4 VSS (power), G6 VSS (power), G7 VSS (power), G8 VSS (power), G9 VSS (power), G14 VSS (power), G15 VSS (power), G17 VSS (power)
part P pins: G18 VSS (power), H4 VSS (power), H8 VSS (power), H9 VSS (power), H10 VSS (power), H11 VSS (power), H12 VSS (power), H13 VSS (power), H14 VSS (power), H15 VSS (power), H17 VSS (power), J4 VSS (power), J8 VSS (power), J9 VSS (power), J10 VSS (power), J11 VSS (power), J12 VSS (power), J13 VSS (power), J14 VSS (power), J17 VSS (power), J20 VSS (power), K5 VSS (power), K8 VSS (power), K9 VSS (power), K10 VSS (power), K11 VSS (power), K12 VSS (power), K13 VSS (power), K14 VSS (power), K17 VSS (power), L4 VSS (power), L5 VSS (power), L6 VSS (power), L7 VSS (power), L8 VSS (power), L9 VSS (power), L10 VSS (power), L11 VSS (power), L12 VSS (power), L13 VSS (power), L14 VSS (power), L15 VSS (power), L16 VSS (power), L17 VSS (power), L21 VSS (power), M7 VSS (power), M8 VSS (power)
part Q pins: AA1 VSS (power), AA5 VSS (power), AA21 VSS (power), M9 VSS (power), M10 VSS (power), M11 VSS (power), M12 VSS (power), M13 VSS (power), M14 VSS (power), N7 VSS (power), N8 VSS (power), N12 VSS (power), N13 VSS (power), N14 VSS (power), N15 VSS (power), P7 VSS (power), P8 VSS (power), P12 VSS (power), P15 VSS (power), R7 VSS (power), R8 VSS (power), R12 VSS (power), R15 VSS (power), T2 VSS (power), T3 VSS (power), T8 VSS (power), T9 VSS (power), T10 VSS (power), T11 VSS (power), T12 VSS (power), U4 VSS (power), U8 VSS (power), U9 VSS (power), U11 VSS (power), U13 VSS (power), U14 VSS (power), V4 VSS (power), V8 VSS (power), V11 VSS (power), W1 VSS (power), W3 VSS (power), W4 VSS (power), W5 VSS (power), W7 VSS (power), W8 VSS (power), W9 VSS (power)
part A text: OSC; PLL Power; OTP/eFUSE; PMU IO
part H text: MIPI OUT
part I text: TSADC
part J text: I2S
part K text: PMU IO
part L text: MIPI CIS
part M text: DDR3/DDR4
part N text: ARM; GPU/Logic

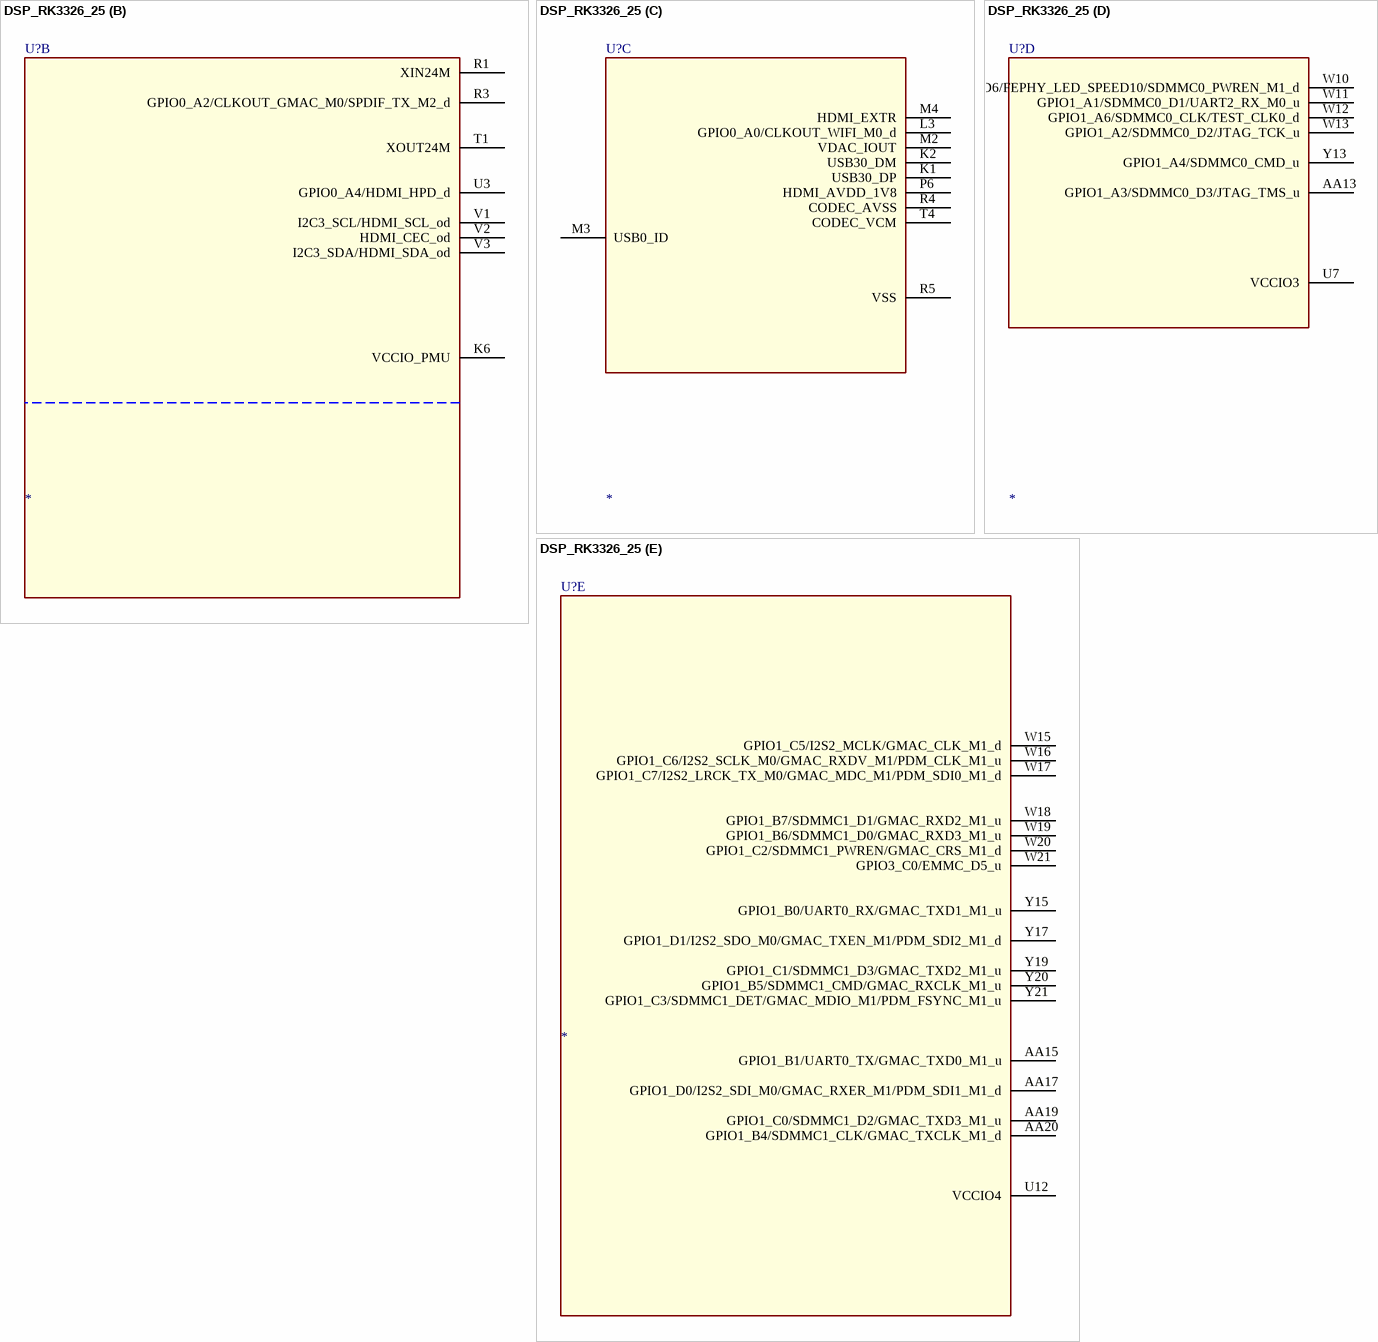
[diagram p94: symbol DSP_RK3326_25]

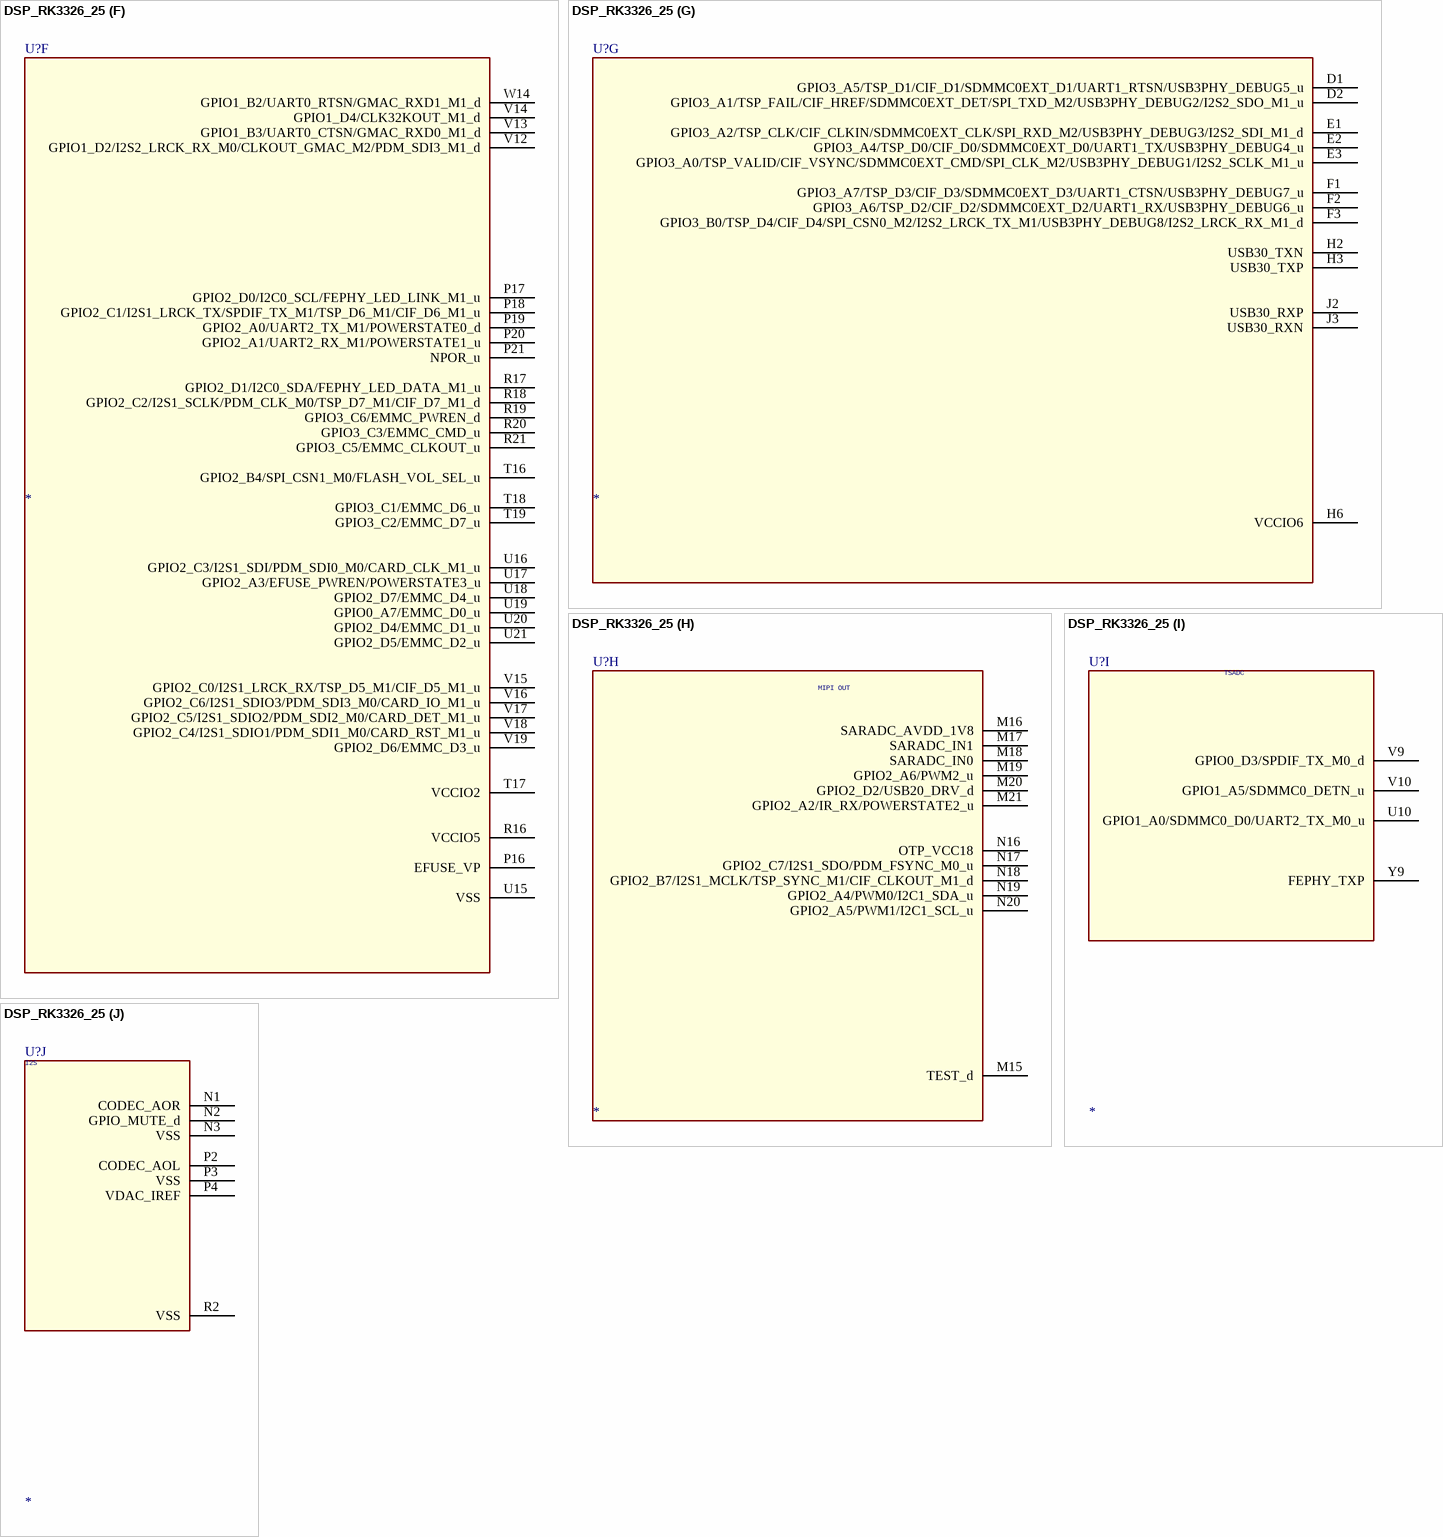
[diagram p95: symbol DSP_RK3326_25]

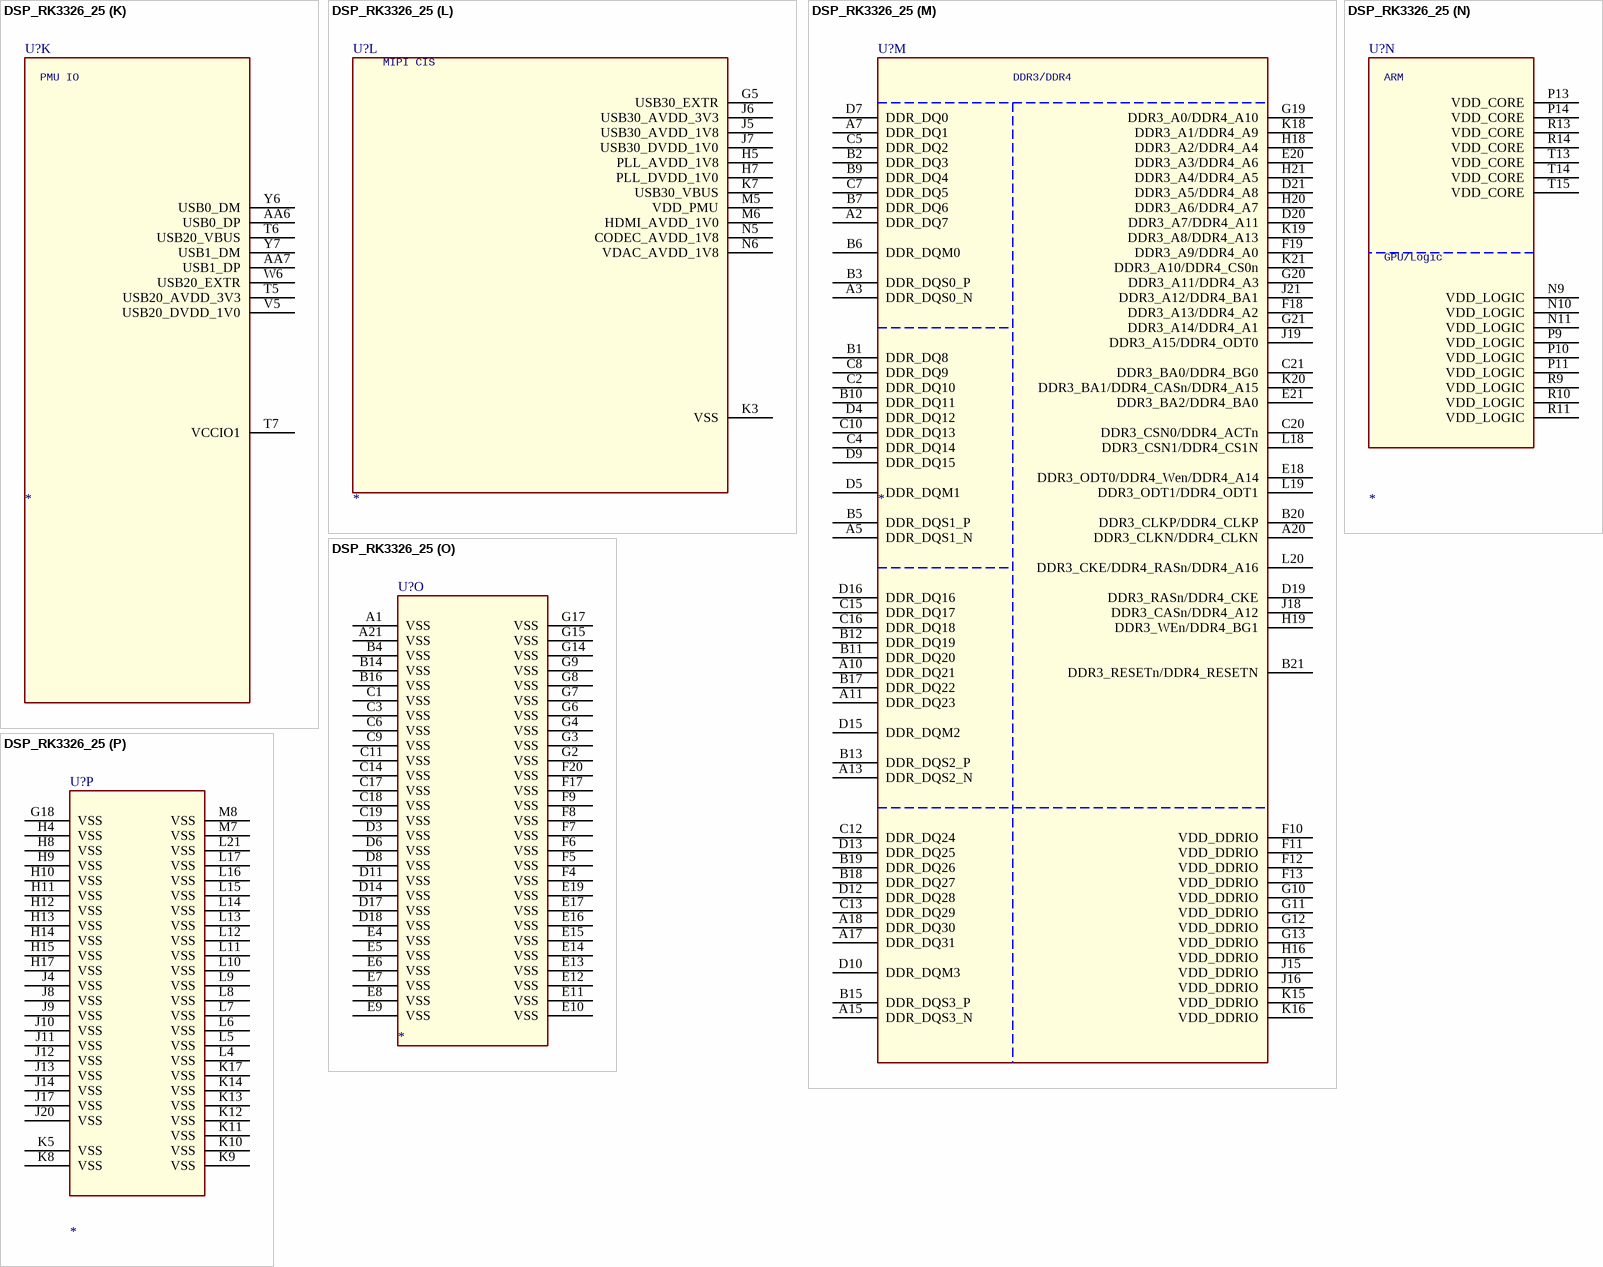
[diagram p96: symbol DSP_RK3326_25]

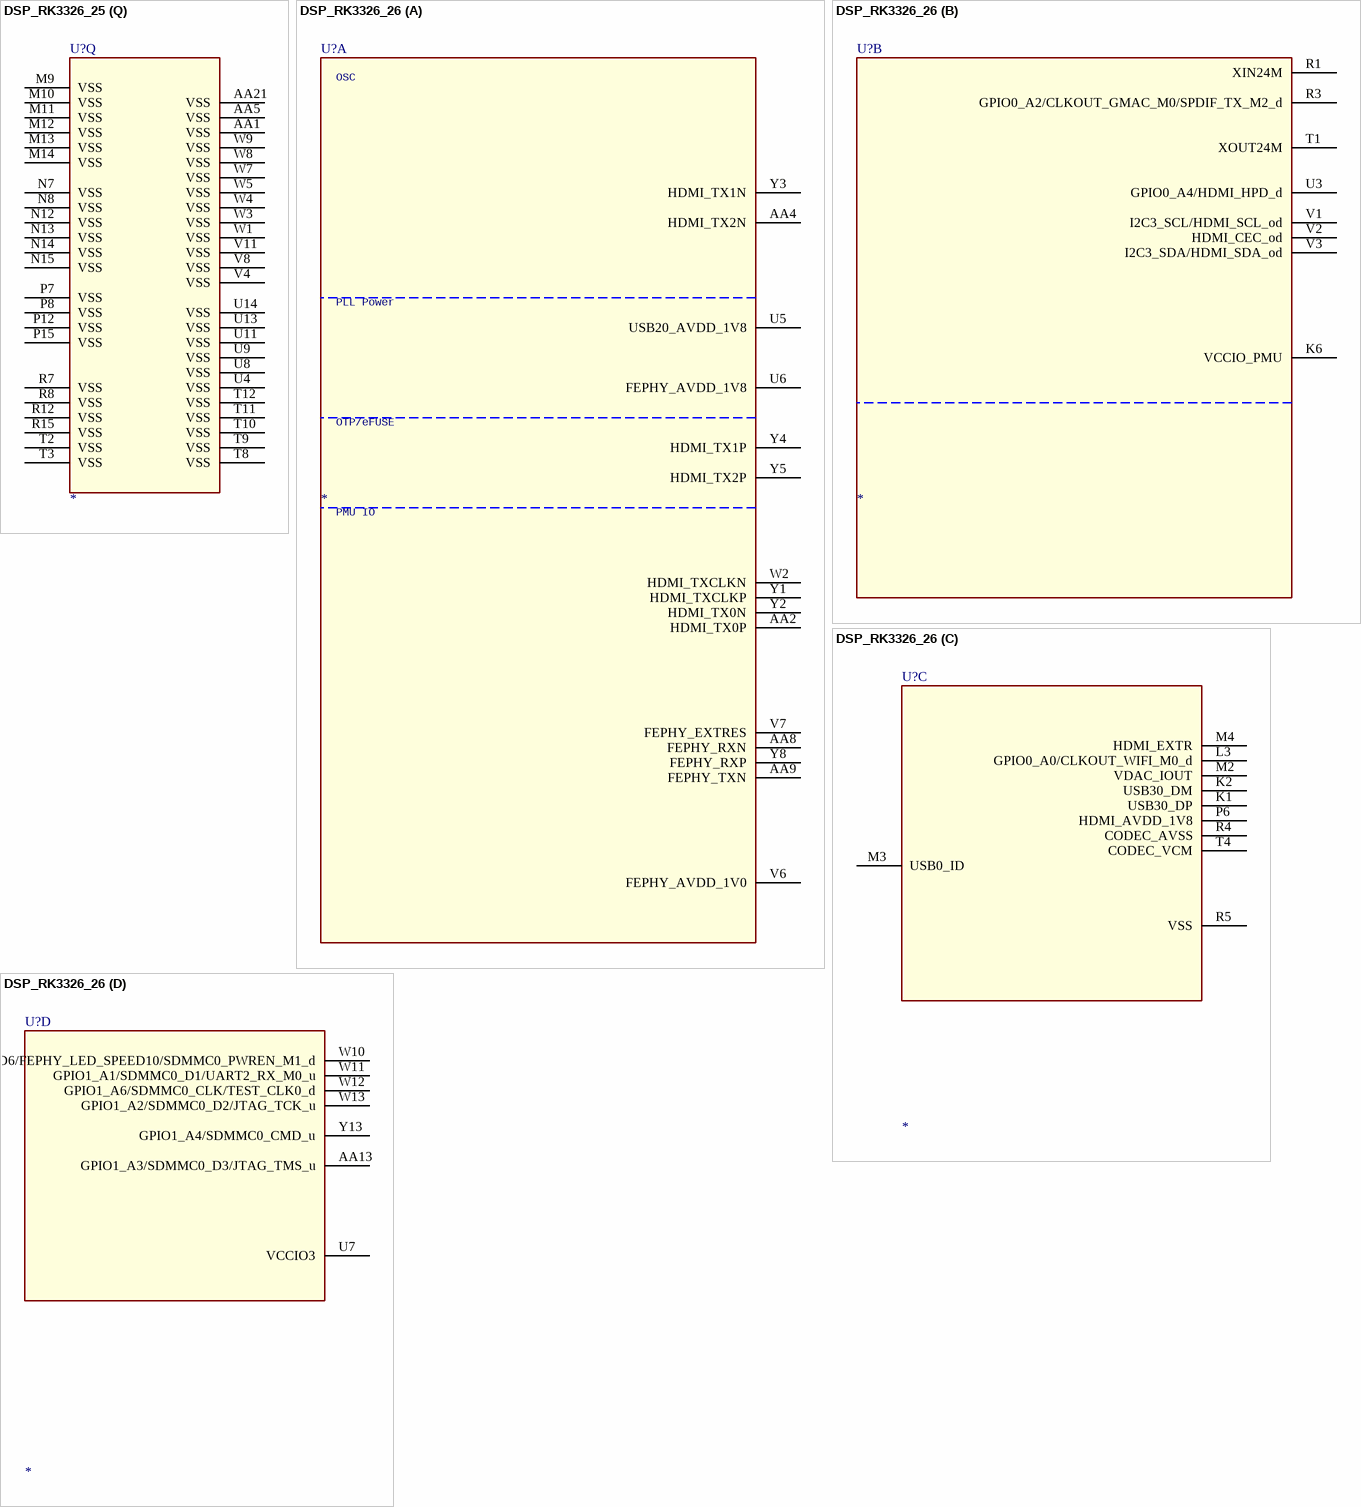
[diagram p97: symbols DSP_RK3326_25 to DSP_RK3326_26]